# Altium schematic symbol library radxa_cm3i_io_board_v1.4_Library.SchLib: 162 symbols (part 1 of 2)
Pins are listed as number, name and electrical type; pins without a type are passive.

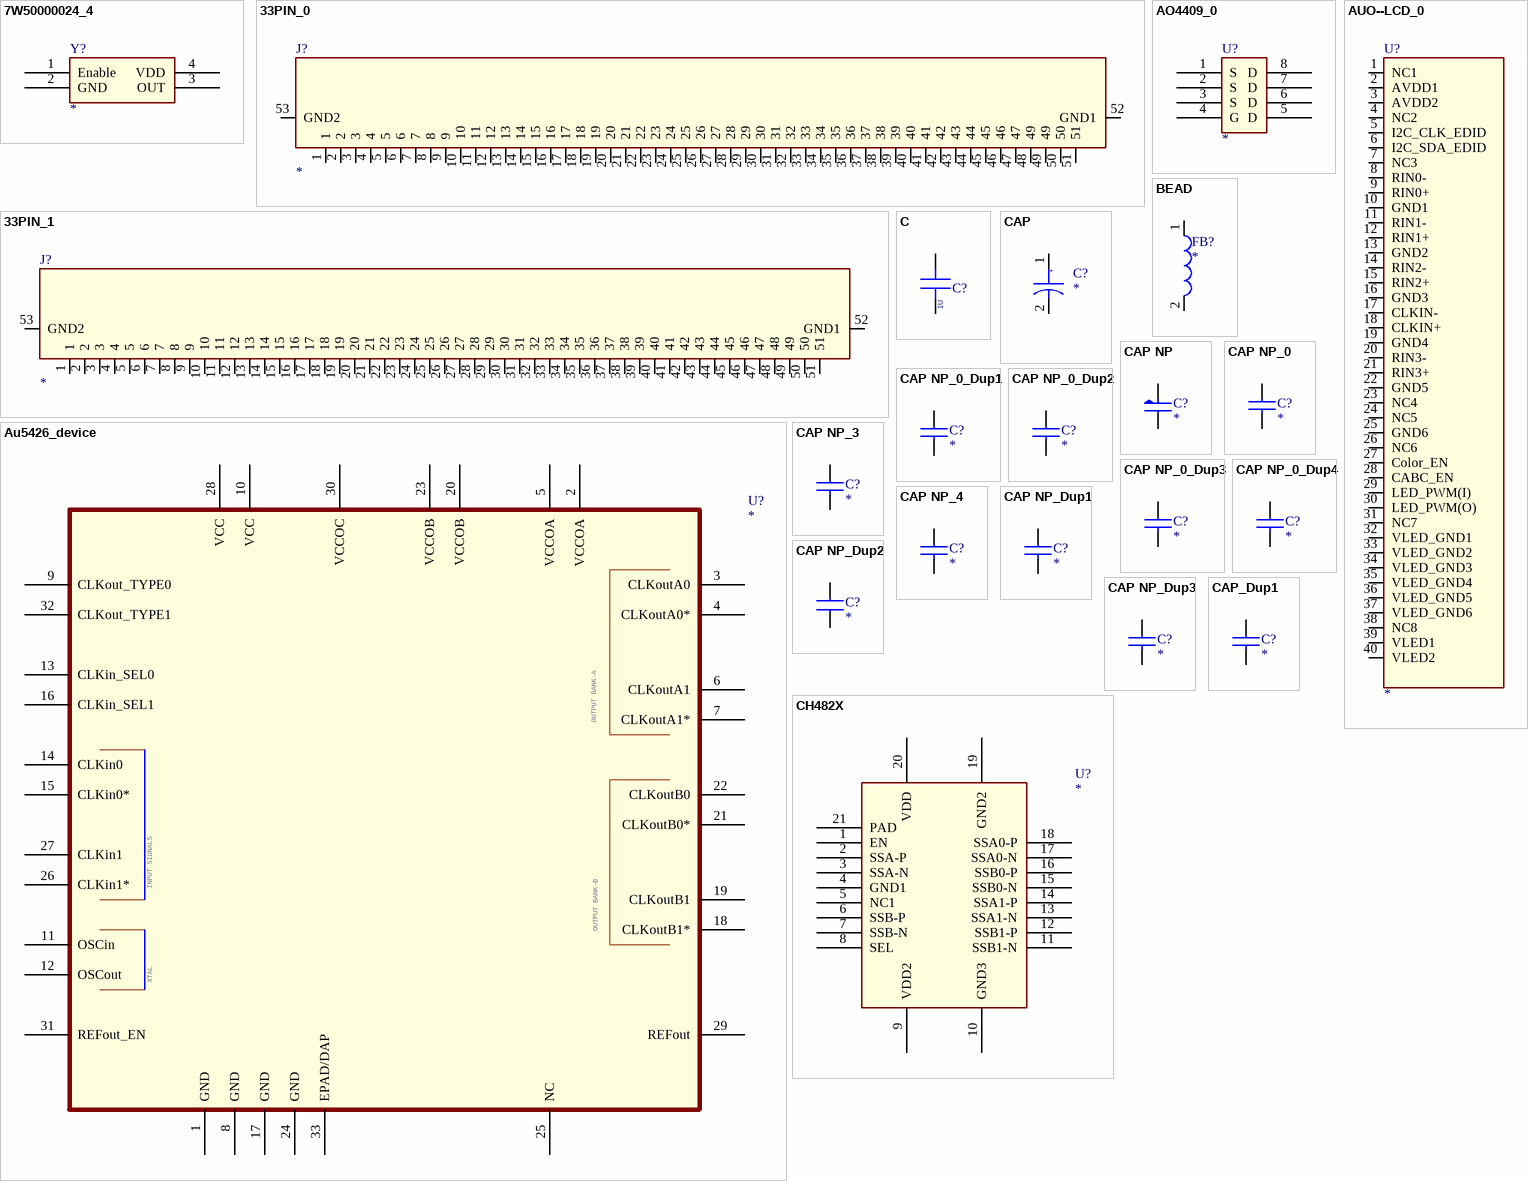
[diagram p0: symbols 7W50000024_4 to CH482X]

## 7W50000024_4
designator Y?
footprint Y-4-5_08-TXC-7W5
pins: 1 Enable, 2 GND, 3 OUT, 4 VDD

## 33PIN_0
designator J?
footprint 33PIN
pins: 1, 2, 3, 4, 5, 6, 7, 8, 9, 10, 11, 12, 13, 14, 15, 16, 17, 18, 19, 20, 21, 22, 23, 24, 25, 26, 27, 28, 29, 30, 31, 32, 33, 34, 35, 36, 37, 38, 39, 40, 41, 42, 43, 44, 45, 46, 47, 48 49, 49, 50, 51, 52 GND1, 53 GND2

## 33PIN_1
designator J?
footprint 33PIN
pins: 1, 2, 3, 4, 5, 6, 7, 8, 9, 10, 11, 12, 13, 14, 15, 16, 17, 18, 19, 20, 21, 22, 23, 24, 25, 26, 27, 28, 29, 30, 31, 32, 33, 34, 35, 36, 37, 38, 39, 40, 41, 42, 43, 44, 45, 46, 47, 48, 49, 50, 51, 52 GND1, 53 GND2

## AO4409_0
designator U?
pins: 1 S, 2 S, 3 S, 4 G, 5 D, 6 D, 7 D, 8 D

## Au5426_device
designator U?
footprint QFN50P500X500X90-33N
pins: 1 GND (power), 2 VCCOA (power), 3 CLKoutA0, 4 CLKoutA0*, 5 VCCOA (power), 6 CLKoutA1, 7 CLKoutA1*, 8 GND (power), 9 CLKout_TYPE0, 10 VCC (power), 11 OSCin, 12 OSCout, 13 CLKin_SEL0, 14 CLKin0, 15 CLKin0*, 16 CLKin_SEL1, 17 GND (power), 18 CLKoutB1*, 19 CLKoutB1, 20 VCCOB (power), 21 CLKoutB0*, 22 CLKoutB0, 23 VCCOB (power), 24 GND (power), 25 NC, 26 CLKin1*, 27 CLKin1, 28 VCC (power), 29 REFout, 30 VCCOC, 31 REFout_EN, 32 CLKout_TYPE1, 33 EPAD/DAP
text: OUTPUT BANK-A; INPUT SIGNALS; OUTPUT BANK-B; XTAL

## AUO--LCD_0
designator U?
pins: 1 NC1, 2 AVDD1, 3 AVDD2, 4 NC2, 5 I2C_CLK_EDID, 6 I2C_SDA_EDID, 7 NC3, 8 RIN0-, 9 RIN0+, 10 GND1, 11 RIN1-, 12 RIN1+, 13 GND2, 14 RIN2-, 15 RIN2+, 16 GND3, 17 CLKIN-, 18 CLKIN+, 19 GND4, 20 RIN3-, 21 RIN3+, 22 GND5, 23 NC4, 24 NC5, 25 GND6, 26 NC6, 27 Color_EN, 28 CABC_EN, 29 LED_PWM(I), 30 LED_PWM(O), 31 NC7, 32 VLED_GND1, 33 VLED_GND2, 34 VLED_GND3, 35 VLED_GND4, 36 VLED_GND5, 37 VLED_GND6, 38 NC8, 39 VLED1, 40 VLED2

## BEAD
designator FB?
pins: 1, 2

## C
designator C?, comment 1U
PARTS: 1; OriginalSymbolOrigin: (0,30); PKG_TYPE: CAP2-100-250; LEVEL: STD; PINSWAP: (A,B)
pins: 1, 2

## CAP
designator C?
pins: 1, 2
text: +

## CAP NP
designator C?
pins: 1, 2

## CAP NP_0
designator C?
pins: 1, 2

## CAP NP_0_Dup1
designator C?
pins: 1, 2

## CAP NP_0_Dup2
designator C?
pins: 1, 2

## CAP NP_0_Dup3
designator C?
pins: 1, 2

## CAP NP_0_Dup4
designator C?
pins: 1, 2

## CAP NP_3
designator C?
pins: 1, 2

## CAP NP_4
designator C?
pins: 1, 2

## CAP NP_Dup1
designator C?
pins: 1, 2

## CAP NP_Dup2
designator C?
footprint C0603
pins: 1, 2

## CAP NP_Dup3
designator C?
footprint C0402
pins: 1, 2

## CAP_Dup1
designator C?
pins: 1, 2

## CH482X
designator U?
footprint CH482X
pins: 1 EN, 2 SSA-P, 3 SSA-N, 4 GND1, 5 NC1, 6 SSB-P, 7 SSB-N, 8 SEL, 9 VDD2, 10 GND3, 11 SSB1-N, 12 SSB1-P, 13 SSA1-N, 14 SSA1-P, 15 SSB0-N, 16 SSB0-P, 17 SSA0-N, 18 SSA0-P, 19 GND2, 20 VDD, 21 PAD

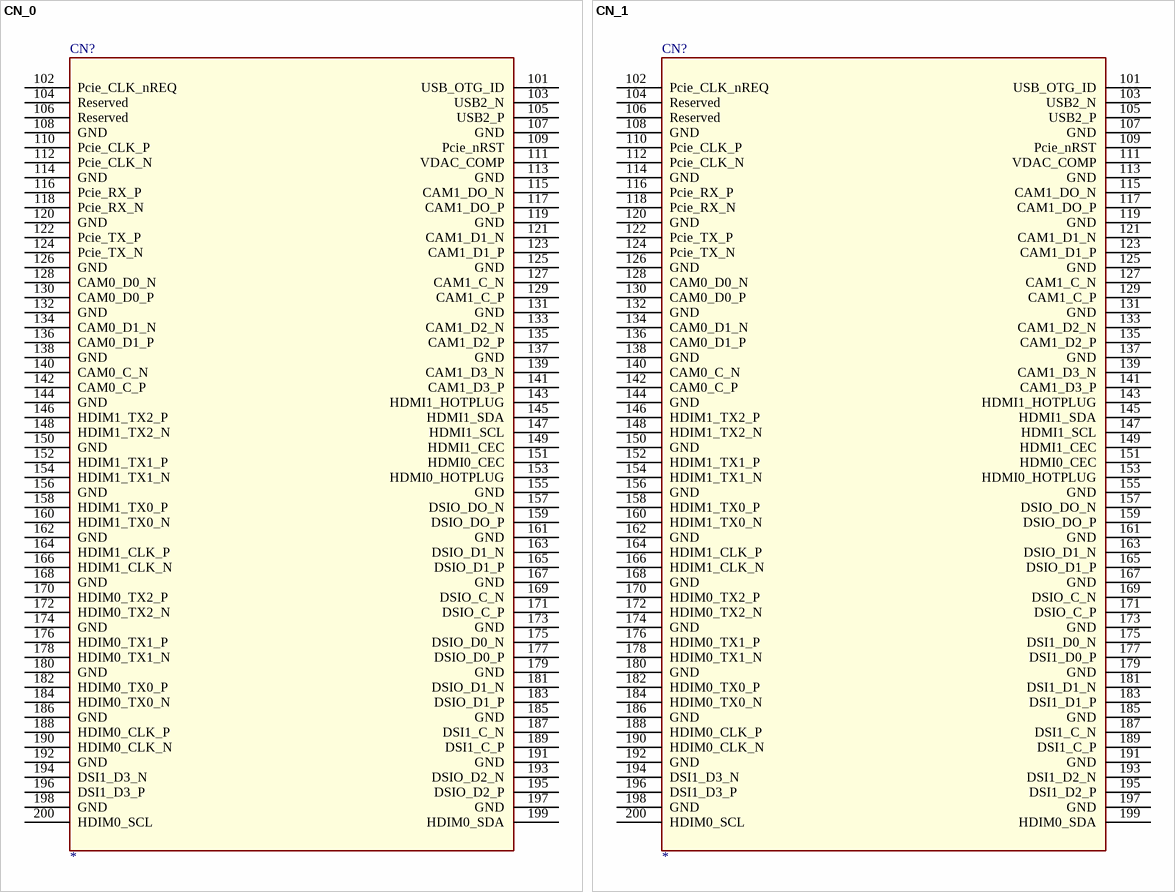
[diagram p1: symbols CN_0 to CN_1]

## CN_0
designator CN?
pins: 101 USB_OTG_ID, 102 Pcie_CLK_nREQ, 103 USB2_N, 104 Reserved, 105 USB2_P, 106 Reserved, 107 GND, 108 GND, 109 Pcie_nRST, 110 Pcie_CLK_P, 111 VDAC_COMP, 112 Pcie_CLK_N, 113 GND, 114 GND, 115 CAM1_DO_N, 116 Pcie_RX_P, 117 CAM1_DO_P, 118 Pcie_RX_N, 119 GND, 120 GND, 121 CAM1_D1_N, 122 Pcie_TX_P, 123 CAM1_D1_P, 124 Pcie_TX_N, 125 GND, 126 GND, 127 CAM1_C_N, 128 CAM0_D0_N, 129 CAM1_C_P, 130 CAM0_D0_P, 131 GND, 132 GND, 133 CAM1_D2_N, 134 CAM0_D1_N, 135 CAM1_D2_P, 136 CAM0_D1_P, 137 GND, 138 GND, 139 CAM1_D3_N, 140 CAM0_C_N, 141 CAM1_D3_P, 142 CAM0_C_P, 143 HDMI1_HOTPLUG, 144 GND, 145 HDMI1_SDA, 146 HDIM1_TX2_P, 147 HDMI1_SCL, 148 HDIM1_TX2_N, 149 HDMI1_CEC, 150 GND, 151 HDMI0_CEC, 152 HDIM1_TX1_P, 153 HDMI0_HOTPLUG, 154 HDIM1_TX1_N, 155 GND, 156 GND, 157 DSIO_DO_N, 158 HDIM1_TX0_P, 159 DSIO_DO_P, 160 HDIM1_TX0_N, 161 GND, 162 GND, 163 DSIO_D1_N, 164 HDIM1_CLK_P, 165 DSIO_D1_P, 166 HDIM1_CLK_N, 167 GND, 168 GND, 169 DSIO_C_N, 170 HDIM0_TX2_P, 171 DSIO_C_P, 172 HDIM0_TX2_N, 173 GND, 174 GND, 175 DSIO_D0_N, 176 HDIM0_TX1_P, 177 DSIO_D0_P, 178 HDIM0_TX1_N, 179 GND, 180 GND, 181 DSIO_D1_N, 182 HDIM0_TX0_P, 183 DSIO_D1_P, 184 HDIM0_TX0_N, 185 GND, 186 GND, 187 DSI1_C_N, 188 HDIM0_CLK_P, 189 DSI1_C_P, 190 HDIM0_CLK_N, 191 GND, 192 GND, 193 DSIO_D2_N, 194 DSI1_D3_N, 195 DSIO_D2_P, 196 DSI1_D3_P, 197 GND, 198 GND, 199 HDIM0_SDA, 200 HDIM0_SCL

## CN_1
designator CN?
pins: 101 USB_OTG_ID, 102 Pcie_CLK_nREQ, 103 USB2_N, 104 Reserved, 105 USB2_P, 106 Reserved, 107 GND, 108 GND, 109 Pcie_nRST, 110 Pcie_CLK_P, 111 VDAC_COMP, 112 Pcie_CLK_N, 113 GND, 114 GND, 115 CAM1_DO_N, 116 Pcie_RX_P, 117 CAM1_DO_P, 118 Pcie_RX_N, 119 GND, 120 GND, 121 CAM1_D1_N, 122 Pcie_TX_P, 123 CAM1_D1_P, 124 Pcie_TX_N, 125 GND, 126 GND, 127 CAM1_C_N, 128 CAM0_D0_N, 129 CAM1_C_P, 130 CAM0_D0_P, 131 GND, 132 GND, 133 CAM1_D2_N, 134 CAM0_D1_N, 135 CAM1_D2_P, 136 CAM0_D1_P, 137 GND, 138 GND, 139 CAM1_D3_N, 140 CAM0_C_N, 141 CAM1_D3_P, 142 CAM0_C_P, 143 HDMI1_HOTPLUG, 144 GND, 145 HDMI1_SDA, 146 HDIM1_TX2_P, 147 HDMI1_SCL, 148 HDIM1_TX2_N, 149 HDMI1_CEC, 150 GND, 151 HDMI0_CEC, 152 HDIM1_TX1_P, 153 HDMI0_HOTPLUG, 154 HDIM1_TX1_N, 155 GND, 156 GND, 157 DSIO_DO_N, 158 HDIM1_TX0_P, 159 DSIO_DO_P, 160 HDIM1_TX0_N, 161 GND, 162 GND, 163 DSIO_D1_N, 164 HDIM1_CLK_P, 165 DSIO_D1_P, 166 HDIM1_CLK_N, 167 GND, 168 GND, 169 DSIO_C_N, 170 HDIM0_TX2_P, 171 DSIO_C_P, 172 HDIM0_TX2_N, 173 GND, 174 GND, 175 DSI1_D0_N, 176 HDIM0_TX1_P, 177 DSI1_D0_P, 178 HDIM0_TX1_N, 179 GND, 180 GND, 181 DSI1_D1_N, 182 HDIM0_TX0_P, 183 DSI1_D1_P, 184 HDIM0_TX0_N, 185 GND, 186 GND, 187 DSI1_C_N, 188 HDIM0_CLK_P, 189 DSI1_C_P, 190 HDIM0_CLK_N, 191 GND, 192 GND, 193 DSI1_D2_N, 194 DSI1_D3_N, 195 DSI1_D2_P, 196 DSI1_D3_P, 197 GND, 198 GND, 199 HDIM0_SDA, 200 HDIM0_SCL

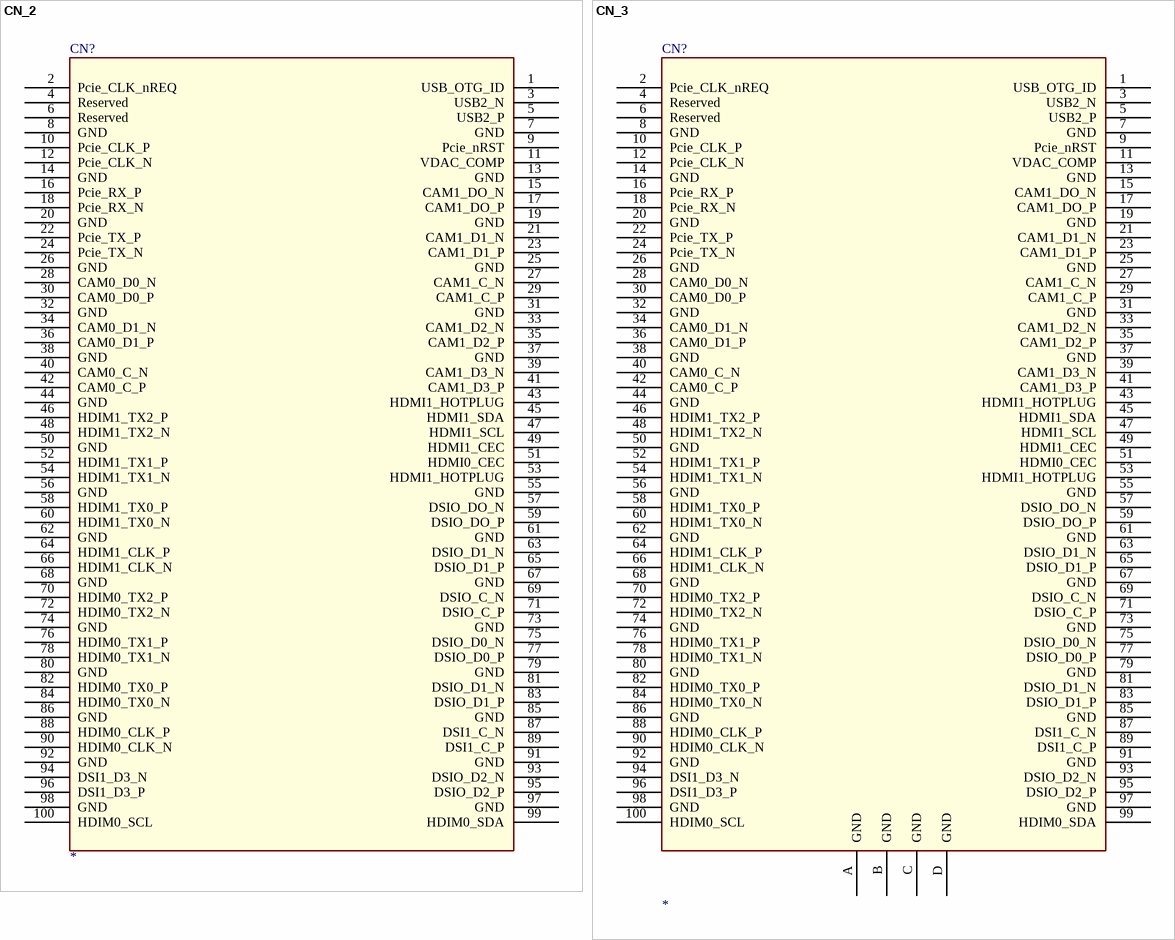
[diagram p2: symbols CN_2 to CN_3]

## CN_2
designator CN?
pins: 1 USB_OTG_ID, 2 Pcie_CLK_nREQ, 3 USB2_N, 4 Reserved, 5 USB2_P, 6 Reserved, 7 GND, 8 GND, 9 Pcie_nRST, 10 Pcie_CLK_P, 11 VDAC_COMP, 12 Pcie_CLK_N, 13 GND, 14 GND, 15 CAM1_DO_N, 16 Pcie_RX_P, 17 CAM1_DO_P, 18 Pcie_RX_N, 19 GND, 20 GND, 21 CAM1_D1_N, 22 Pcie_TX_P, 23 CAM1_D1_P, 24 Pcie_TX_N, 25 GND, 26 GND, 27 CAM1_C_N, 28 CAM0_D0_N, 29 CAM1_C_P, 30 CAM0_D0_P, 31 GND, 32 GND, 33 CAM1_D2_N, 34 CAM0_D1_N, 35 CAM1_D2_P, 36 CAM0_D1_P, 37 GND, 38 GND, 39 CAM1_D3_N, 40 CAM0_C_N, 41 CAM1_D3_P, 42 CAM0_C_P, 43 HDMI1_HOTPLUG, 44 GND, 45 HDMI1_SDA, 46 HDIM1_TX2_P, 47 HDMI1_SCL, 48 HDIM1_TX2_N, 49 HDMI1_CEC, 50 GND, 51 HDMI0_CEC, 52 HDIM1_TX1_P, 53 HDMI1_HOTPLUG, 54 HDIM1_TX1_N, 55 GND, 56 GND, 57 DSIO_DO_N, 58 HDIM1_TX0_P, 59 DSIO_DO_P, 60 HDIM1_TX0_N, 61 GND, 62 GND, 63 DSIO_D1_N, 64 HDIM1_CLK_P, 65 DSIO_D1_P, 66 HDIM1_CLK_N, 67 GND, 68 GND, 69 DSIO_C_N, 70 HDIM0_TX2_P, 71 DSIO_C_P, 72 HDIM0_TX2_N, 73 GND, 74 GND, 75 DSIO_D0_N, 76 HDIM0_TX1_P, 77 DSIO_D0_P, 78 HDIM0_TX1_N, 79 GND, 80 GND, 81 DSIO_D1_N, 82 HDIM0_TX0_P, 83 DSIO_D1_P, 84 HDIM0_TX0_N, 85 GND, 86 GND, 87 DSI1_C_N, 88 HDIM0_CLK_P, 89 DSI1_C_P, 90 HDIM0_CLK_N, 91 GND, 92 GND, 93 DSIO_D2_N, 94 DSI1_D3_N, 95 DSIO_D2_P, 96 DSI1_D3_P, 97 GND, 98 GND, 99 HDIM0_SDA, 100 HDIM0_SCL

## CN_3
designator CN?
pins: 1 USB_OTG_ID, 2 Pcie_CLK_nREQ, 3 USB2_N, 4 Reserved, 5 USB2_P, 6 Reserved, 7 GND, 8 GND, 9 Pcie_nRST, 10 Pcie_CLK_P, 11 VDAC_COMP, 12 Pcie_CLK_N, 13 GND, 14 GND, 15 CAM1_DO_N, 16 Pcie_RX_P, 17 CAM1_DO_P, 18 Pcie_RX_N, 19 GND, 20 GND, 21 CAM1_D1_N, 22 Pcie_TX_P, 23 CAM1_D1_P, 24 Pcie_TX_N, 25 GND, 26 GND, 27 CAM1_C_N, 28 CAM0_D0_N, 29 CAM1_C_P, 30 CAM0_D0_P, 31 GND, 32 GND, 33 CAM1_D2_N, 34 CAM0_D1_N, 35 CAM1_D2_P, 36 CAM0_D1_P, 37 GND, 38 GND, 39 CAM1_D3_N, 40 CAM0_C_N, 41 CAM1_D3_P, 42 CAM0_C_P, 43 HDMI1_HOTPLUG, 44 GND, 45 HDMI1_SDA, 46 HDIM1_TX2_P, 47 HDMI1_SCL, 48 HDIM1_TX2_N, 49 HDMI1_CEC, 50 GND, 51 HDMI0_CEC, 52 HDIM1_TX1_P, 53 HDMI1_HOTPLUG, 54 HDIM1_TX1_N, 55 GND, 56 GND, 57 DSIO_DO_N, 58 HDIM1_TX0_P, 59 DSIO_DO_P, 60 HDIM1_TX0_N, 61 GND, 62 GND, 63 DSIO_D1_N, 64 HDIM1_CLK_P, 65 DSIO_D1_P, 66 HDIM1_CLK_N, 67 GND, 68 GND, 69 DSIO_C_N, 70 HDIM0_TX2_P, 71 DSIO_C_P, 72 HDIM0_TX2_N, 73 GND, 74 GND, 75 DSIO_D0_N, 76 HDIM0_TX1_P, 77 DSIO_D0_P, 78 HDIM0_TX1_N, 79 GND, 80 GND, 81 DSIO_D1_N, 82 HDIM0_TX0_P, 83 DSIO_D1_P, 84 HDIM0_TX0_N, 85 GND, 86 GND, 87 DSI1_C_N, 88 HDIM0_CLK_P, 89 DSI1_C_P, 90 HDIM0_CLK_N, 91 GND, 92 GND, 93 DSIO_D2_N, 94 DSI1_D3_N, 95 DSIO_D2_P, 96 DSI1_D3_P, 97 GND, 98 GND, 99 HDIM0_SDA, 100 HDIM0_SCL, A GND, B GND, C GND, D GND

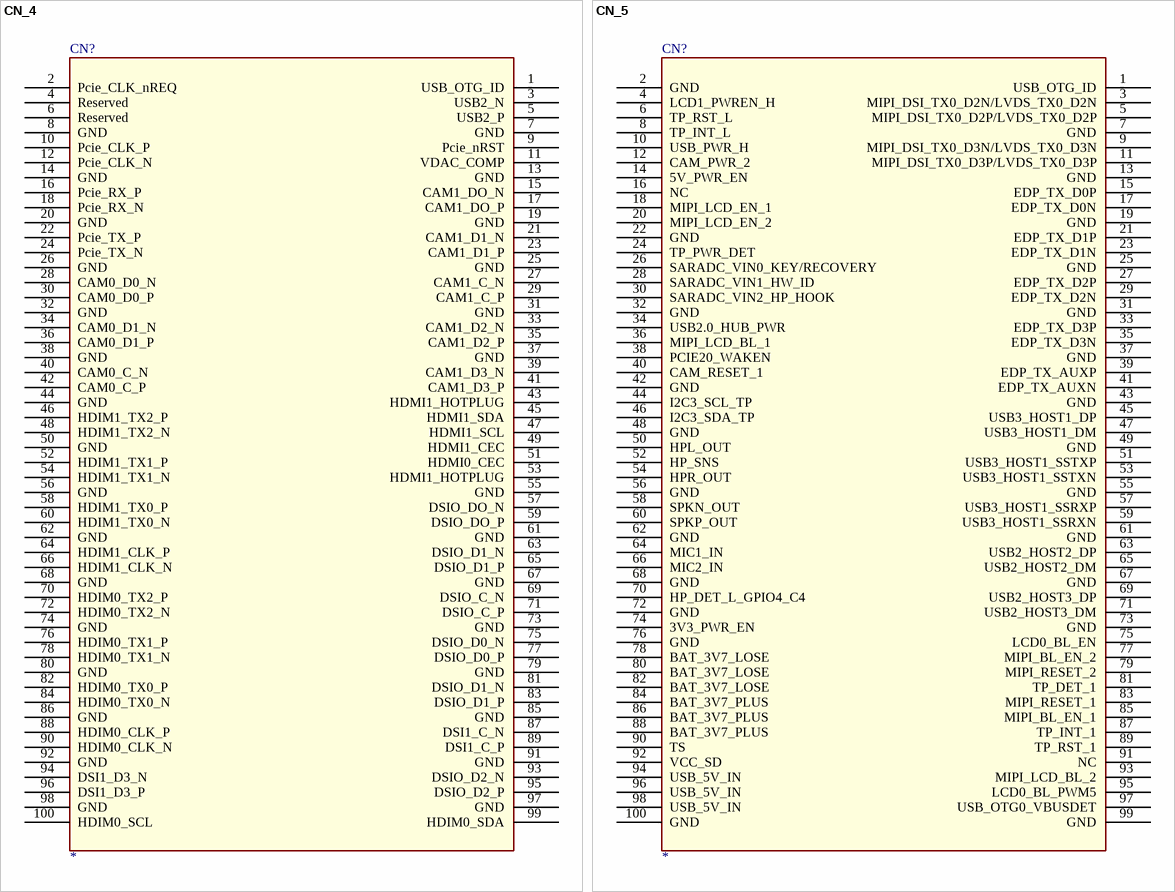
[diagram p3: symbols CN_4 to CN_5]

## CN_4
designator CN?
pins: 1 USB_OTG_ID, 2 Pcie_CLK_nREQ, 3 USB2_N, 4 Reserved, 5 USB2_P, 6 Reserved, 7 GND, 8 GND, 9 Pcie_nRST, 10 Pcie_CLK_P, 11 VDAC_COMP, 12 Pcie_CLK_N, 13 GND, 14 GND, 15 CAM1_DO_N, 16 Pcie_RX_P, 17 CAM1_DO_P, 18 Pcie_RX_N, 19 GND, 20 GND, 21 CAM1_D1_N, 22 Pcie_TX_P, 23 CAM1_D1_P, 24 Pcie_TX_N, 25 GND, 26 GND, 27 CAM1_C_N, 28 CAM0_D0_N, 29 CAM1_C_P, 30 CAM0_D0_P, 31 GND, 32 GND, 33 CAM1_D2_N, 34 CAM0_D1_N, 35 CAM1_D2_P, 36 CAM0_D1_P, 37 GND, 38 GND, 39 CAM1_D3_N, 40 CAM0_C_N, 41 CAM1_D3_P, 42 CAM0_C_P, 43 HDMI1_HOTPLUG, 44 GND, 45 HDMI1_SDA, 46 HDIM1_TX2_P, 47 HDMI1_SCL, 48 HDIM1_TX2_N, 49 HDMI1_CEC, 50 GND, 51 HDMI0_CEC, 52 HDIM1_TX1_P, 53 HDMI1_HOTPLUG, 54 HDIM1_TX1_N, 55 GND, 56 GND, 57 DSIO_DO_N, 58 HDIM1_TX0_P, 59 DSIO_DO_P, 60 HDIM1_TX0_N, 61 GND, 62 GND, 63 DSIO_D1_N, 64 HDIM1_CLK_P, 65 DSIO_D1_P, 66 HDIM1_CLK_N, 67 GND, 68 GND, 69 DSIO_C_N, 70 HDIM0_TX2_P, 71 DSIO_C_P, 72 HDIM0_TX2_N, 73 GND, 74 GND, 75 DSIO_D0_N, 76 HDIM0_TX1_P, 77 DSIO_D0_P, 78 HDIM0_TX1_N, 79 GND, 80 GND, 81 DSIO_D1_N, 82 HDIM0_TX0_P, 83 DSIO_D1_P, 84 HDIM0_TX0_N, 85 GND, 86 GND, 87 DSI1_C_N, 88 HDIM0_CLK_P, 89 DSI1_C_P, 90 HDIM0_CLK_N, 91 GND, 92 GND, 93 DSIO_D2_N, 94 DSI1_D3_N, 95 DSIO_D2_P, 96 DSI1_D3_P, 97 GND, 98 GND, 99 HDIM0_SDA, 100 HDIM0_SCL

## CN_5
designator CN?
pins: 1 USB_OTG_ID, 2 GND, 3 MIPI_DSI_TX0_D2N/LVDS_TX0_D2N, 4 LCD1_PWREN_H, 5 MIPI_DSI_TX0_D2P/LVDS_TX0_D2P, 6 TP_RST_L, 7 GND, 8 TP_INT_L, 9 MIPI_DSI_TX0_D3N/LVDS_TX0_D3N, 10 USB_PWR_H, 11 MIPI_DSI_TX0_D3P/LVDS_TX0_D3P, 12 CAM_PWR_2, 13 GND, 14 5V_PWR_EN, 15 EDP_TX_D0P, 16 NC, 17 EDP_TX_D0N, 18 MIPI_LCD_EN_1, 19 GND, 20 MIPI_LCD_EN_2, 21 EDP_TX_D1P, 22 GND, 23 EDP_TX_D1N, 24 TP_PWR_DET, 25 GND, 26 SARADC_VIN0_KEY/RECOVERY, 27 EDP_TX_D2P, 28 SARADC_VIN1_HW_ID, 29 EDP_TX_D2N, 30 SARADC_VIN2_HP_HOOK, 31 GND, 32 GND, 33 EDP_TX_D3P, 34 USB2.0_HUB_PWR, 35 EDP_TX_D3N, 36 MIPI_LCD_BL_1, 37 GND, 38 PCIE20_WAKEN, 39 EDP_TX_AUXP, 40 CAM_RESET_1, 41 EDP_TX_AUXN, 42 GND, 43 GND, 44 I2C3_SCL_TP, 45 USB3_HOST1_DP, 46 I2C3_SDA_TP, 47 USB3_HOST1_DM, 48 GND, 49 GND, 50 HPL_OUT, 51 USB3_HOST1_SSTXP, 52 HP_SNS, 53 USB3_HOST1_SSTXN, 54 HPR_OUT, 55 GND, 56 GND, 57 USB3_HOST1_SSRXP, 58 SPKN_OUT, 59 USB3_HOST1_SSRXN, 60 SPKP_OUT, 61 GND, 62 GND, 63 USB2_HOST2_DP, 64 MIC1_IN, 65 USB2_HOST2_DM, 66 MIC2_IN, 67 GND, 68 GND, 69 USB2_HOST3_DP, 70 HP_DET_L_GPIO4_C4, 71 USB2_HOST3_DM, 72 GND, 73 GND, 74 3V3_PWR_EN, 75 LCD0_BL_EN, 76 GND, 77 MIPI_BL_EN_2, 78 BAT_3V7_LOSE, 79 MIPI_RESET_2, 80 BAT_3V7_LOSE, 81 TP_DET_1, 82 BAT_3V7_LOSE, 83 MIPI_RESET_1, 84 BAT_3V7_PLUS, 85 MIPI_BL_EN_1, 86 BAT_3V7_PLUS, 87 TP_INT_1, 88 BAT_3V7_PLUS, 89 TP_RST_1, 90 TS, 91 NC, 92 VCC_SD, 93 MIPI_LCD_BL_2, 94 USB_5V_IN, 95 LCD0_BL_PWM5, 96 USB_5V_IN, 97 USB_OTG0_VBUSDET, 98 USB_5V_IN, 99 GND, 100 GND

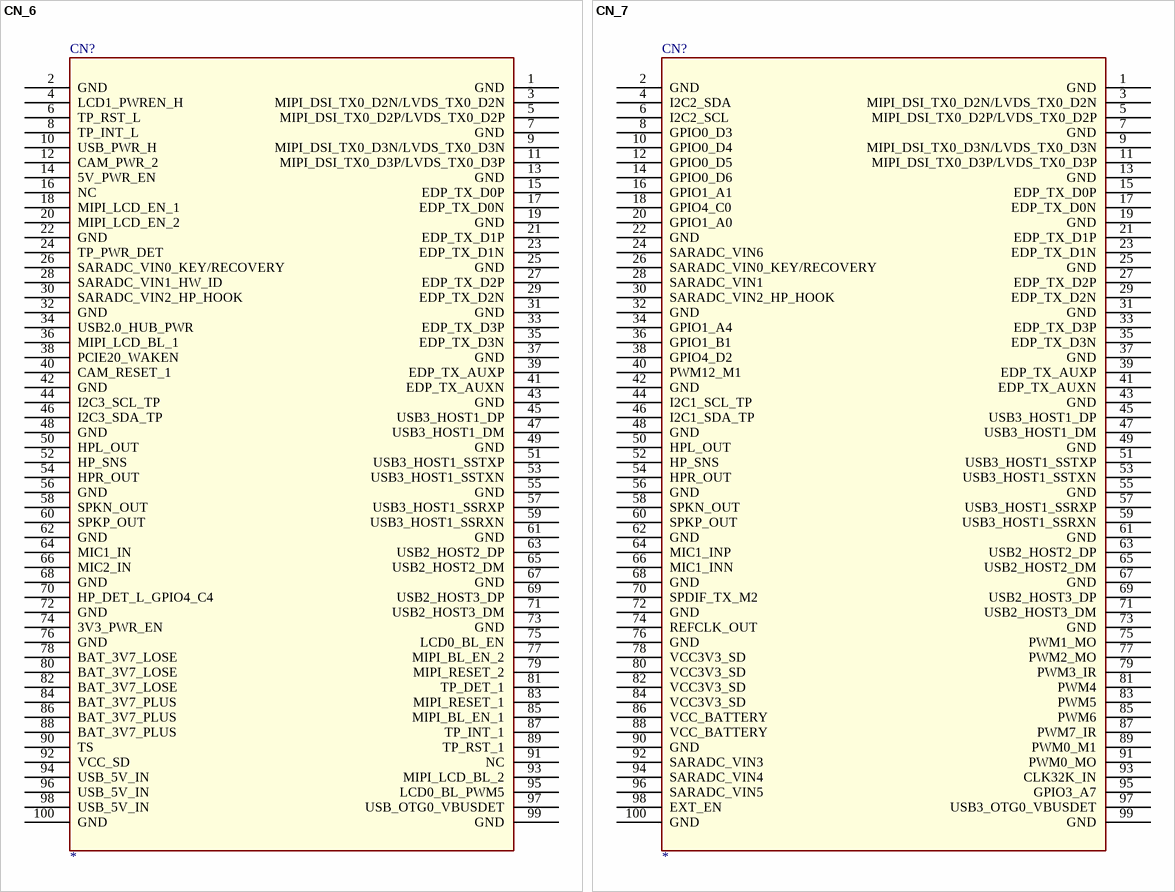
[diagram p4: symbols CN_6 to CN_7]

## CN_6
designator CN?
pins: 1 GND, 2 GND, 3 MIPI_DSI_TX0_D2N/LVDS_TX0_D2N, 4 LCD1_PWREN_H, 5 MIPI_DSI_TX0_D2P/LVDS_TX0_D2P, 6 TP_RST_L, 7 GND, 8 TP_INT_L, 9 MIPI_DSI_TX0_D3N/LVDS_TX0_D3N, 10 USB_PWR_H, 11 MIPI_DSI_TX0_D3P/LVDS_TX0_D3P, 12 CAM_PWR_2, 13 GND, 14 5V_PWR_EN, 15 EDP_TX_D0P, 16 NC, 17 EDP_TX_D0N, 18 MIPI_LCD_EN_1, 19 GND, 20 MIPI_LCD_EN_2, 21 EDP_TX_D1P, 22 GND, 23 EDP_TX_D1N, 24 TP_PWR_DET, 25 GND, 26 SARADC_VIN0_KEY/RECOVERY, 27 EDP_TX_D2P, 28 SARADC_VIN1_HW_ID, 29 EDP_TX_D2N, 30 SARADC_VIN2_HP_HOOK, 31 GND, 32 GND, 33 EDP_TX_D3P, 34 USB2.0_HUB_PWR, 35 EDP_TX_D3N, 36 MIPI_LCD_BL_1, 37 GND, 38 PCIE20_WAKEN, 39 EDP_TX_AUXP, 40 CAM_RESET_1, 41 EDP_TX_AUXN, 42 GND, 43 GND, 44 I2C3_SCL_TP, 45 USB3_HOST1_DP, 46 I2C3_SDA_TP, 47 USB3_HOST1_DM, 48 GND, 49 GND, 50 HPL_OUT, 51 USB3_HOST1_SSTXP, 52 HP_SNS, 53 USB3_HOST1_SSTXN, 54 HPR_OUT, 55 GND, 56 GND, 57 USB3_HOST1_SSRXP, 58 SPKN_OUT, 59 USB3_HOST1_SSRXN, 60 SPKP_OUT, 61 GND, 62 GND, 63 USB2_HOST2_DP, 64 MIC1_IN, 65 USB2_HOST2_DM, 66 MIC2_IN, 67 GND, 68 GND, 69 USB2_HOST3_DP, 70 HP_DET_L_GPIO4_C4, 71 USB2_HOST3_DM, 72 GND, 73 GND, 74 3V3_PWR_EN, 75 LCD0_BL_EN, 76 GND, 77 MIPI_BL_EN_2, 78 BAT_3V7_LOSE, 79 MIPI_RESET_2, 80 BAT_3V7_LOSE, 81 TP_DET_1, 82 BAT_3V7_LOSE, 83 MIPI_RESET_1, 84 BAT_3V7_PLUS, 85 MIPI_BL_EN_1, 86 BAT_3V7_PLUS, 87 TP_INT_1, 88 BAT_3V7_PLUS, 89 TP_RST_1, 90 TS, 91 NC, 92 VCC_SD, 93 MIPI_LCD_BL_2, 94 USB_5V_IN, 95 LCD0_BL_PWM5, 96 USB_5V_IN, 97 USB_OTG0_VBUSDET, 98 USB_5V_IN, 99 GND, 100 GND

## CN_7
designator CN?
pins: 1 GND, 2 GND, 3 MIPI_DSI_TX0_D2N/LVDS_TX0_D2N, 4 I2C2_SDA, 5 MIPI_DSI_TX0_D2P/LVDS_TX0_D2P, 6 I2C2_SCL, 7 GND, 8 GPIO0_D3, 9 MIPI_DSI_TX0_D3N/LVDS_TX0_D3N, 10 GPIO0_D4, 11 MIPI_DSI_TX0_D3P/LVDS_TX0_D3P, 12 GPIO0_D5, 13 GND, 14 GPIO0_D6, 15 EDP_TX_D0P, 16 GPIO1_A1, 17 EDP_TX_D0N, 18 GPIO4_C0, 19 GND, 20 GPIO1_A0, 21 EDP_TX_D1P, 22 GND, 23 EDP_TX_D1N, 24 SARADC_VIN6, 25 GND, 26 SARADC_VIN0_KEY/RECOVERY, 27 EDP_TX_D2P, 28 SARADC_VIN1, 29 EDP_TX_D2N, 30 SARADC_VIN2_HP_HOOK, 31 GND, 32 GND, 33 EDP_TX_D3P, 34 GPIO1_A4, 35 EDP_TX_D3N, 36 GPIO1_B1, 37 GND, 38 GPIO4_D2, 39 EDP_TX_AUXP, 40 PWM12_M1, 41 EDP_TX_AUXN, 42 GND, 43 GND, 44 I2C1_SCL_TP, 45 USB3_HOST1_DP, 46 I2C1_SDA_TP, 47 USB3_HOST1_DM, 48 GND, 49 GND, 50 HPL_OUT, 51 USB3_HOST1_SSTXP, 52 HP_SNS, 53 USB3_HOST1_SSTXN, 54 HPR_OUT, 55 GND, 56 GND, 57 USB3_HOST1_SSRXP, 58 SPKN_OUT, 59 USB3_HOST1_SSRXN, 60 SPKP_OUT, 61 GND, 62 GND, 63 USB2_HOST2_DP, 64 MIC1_INP, 65 USB2_HOST2_DM, 66 MIC1_INN, 67 GND, 68 GND, 69 USB2_HOST3_DP, 70 SPDIF_TX_M2, 71 USB2_HOST3_DM, 72 GND, 73 GND, 74 REFCLK_OUT, 75 PWM1_MO, 76 GND, 77 PWM2_MO, 78 VCC3V3_SD, 79 PWM3_IR, 80 VCC3V3_SD, 81 PWM4, 82 VCC3V3_SD, 83 PWM5, 84 VCC3V3_SD, 85 PWM6, 86 VCC_BATTERY, 87 PWM7_IR, 88 VCC_BATTERY, 89 PWM0_M1, 90 GND, 91 PWM0_MO, 92 SARADC_VIN3, 93 CLK32K_IN, 94 SARADC_VIN4, 95 GPIO3_A7, 96 SARADC_VIN5, 97 USB3_OTG0_VBUSDET, 98 EXT_EN, 99 GND, 100 GND

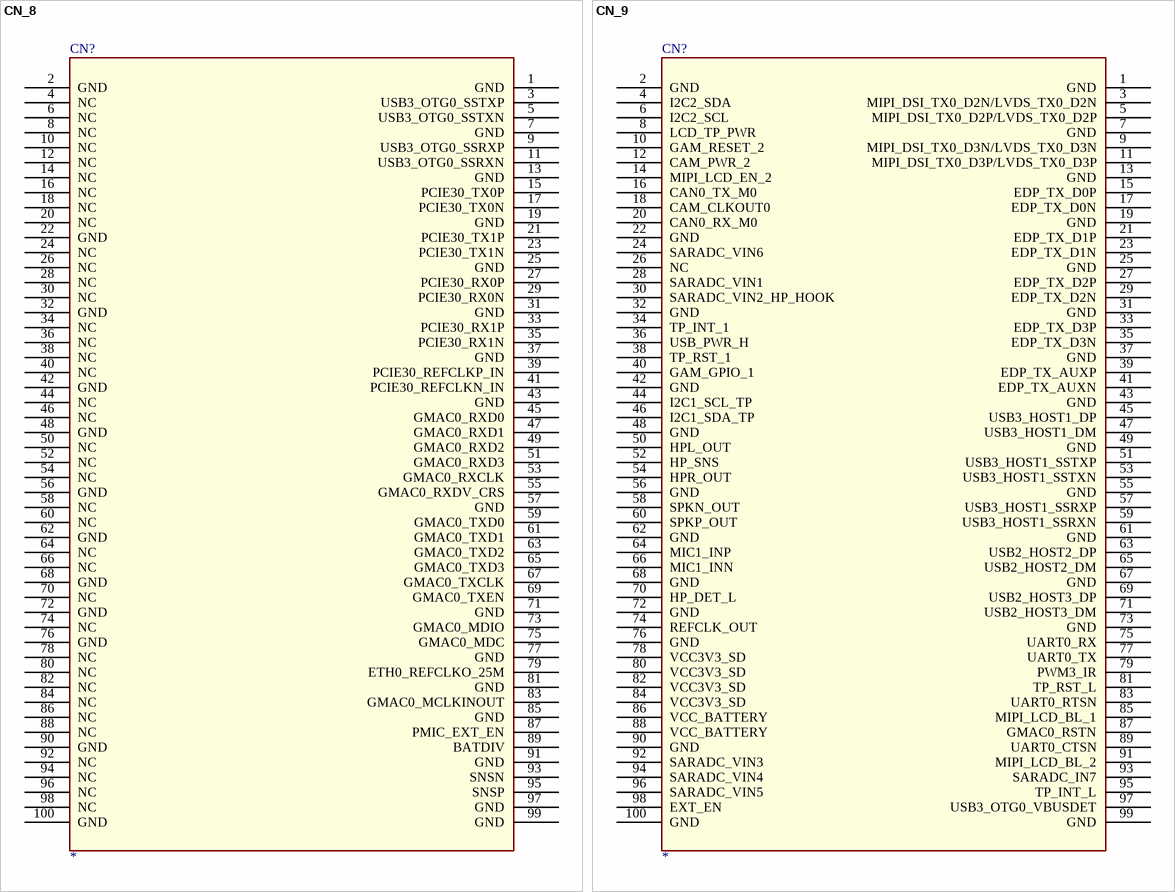
[diagram p5: symbols CN_8 to CN_9]

## CN_8
designator CN?
pins: 1 GND, 2 GND, 3 USB3_OTG0_SSTXP, 4 NC, 5 USB3_OTG0_SSTXN, 6 NC, 7 GND, 8 NC, 9 USB3_OTG0_SSRXP, 10 NC, 11 USB3_OTG0_SSRXN, 12 NC, 13 GND, 14 NC, 15 PCIE30_TX0P, 16 NC, 17 PCIE30_TX0N, 18 NC, 19 GND, 20 NC, 21 PCIE30_TX1P, 22 GND, 23 PCIE30_TX1N, 24 NC, 25 GND, 26 NC, 27 PCIE30_RX0P, 28 NC, 29 PCIE30_RX0N, 30 NC, 31 GND, 32 GND, 33 PCIE30_RX1P, 34 NC, 35 PCIE30_RX1N, 36 NC, 37 GND, 38 NC, 39 PCIE30_REFCLKP_IN, 40 NC, 41 PCIE30_REFCLKN_IN, 42 GND, 43 GND, 44 NC, 45 GMAC0_RXD0, 46 NC, 47 GMAC0_RXD1, 48 GND, 49 GMAC0_RXD2, 50 NC, 51 GMAC0_RXD3, 52 NC, 53 GMAC0_RXCLK, 54 NC, 55 GMAC0_RXDV_CRS, 56 GND, 57 GND, 58 NC, 59 GMAC0_TXD0, 60 NC, 61 GMAC0_TXD1, 62 GND, 63 GMAC0_TXD2, 64 NC, 65 GMAC0_TXD3, 66 NC, 67 GMAC0_TXCLK, 68 GND, 69 GMAC0_TXEN, 70 NC, 71 GND, 72 GND, 73 GMAC0_MDIO, 74 NC, 75 GMAC0_MDC, 76 GND, 77 GND, 78 NC, 79 ETH0_REFCLKO_25M, 80 NC, 81 GND, 82 NC, 83 GMAC0_MCLKINOUT, 84 NC, 85 GND, 86 NC, 87 PMIC_EXT_EN, 88 NC, 89 BATDIV, 90 GND, 91 GND, 92 NC, 93 SNSN, 94 NC, 95 SNSP, 96 NC, 97 GND, 98 NC, 99 GND, 100 GND

## CN_9
designator CN?
pins: 1 GND, 2 GND, 3 MIPI_DSI_TX0_D2N/LVDS_TX0_D2N, 4 I2C2_SDA, 5 MIPI_DSI_TX0_D2P/LVDS_TX0_D2P, 6 I2C2_SCL, 7 GND, 8 LCD_TP_PWR, 9 MIPI_DSI_TX0_D3N/LVDS_TX0_D3N, 10 GAM_RESET_2, 11 MIPI_DSI_TX0_D3P/LVDS_TX0_D3P, 12 CAM_PWR_2, 13 GND, 14 MIPI_LCD_EN_2, 15 EDP_TX_D0P, 16 CAN0_TX_M0, 17 EDP_TX_D0N, 18 CAM_CLKOUT0, 19 GND, 20 CAN0_RX_M0, 21 EDP_TX_D1P, 22 GND, 23 EDP_TX_D1N, 24 SARADC_VIN6, 25 GND, 26 NC, 27 EDP_TX_D2P, 28 SARADC_VIN1, 29 EDP_TX_D2N, 30 SARADC_VIN2_HP_HOOK, 31 GND, 32 GND, 33 EDP_TX_D3P, 34 TP_INT_1, 35 EDP_TX_D3N, 36 USB_PWR_H, 37 GND, 38 TP_RST_1, 39 EDP_TX_AUXP, 40 GAM_GPIO_1, 41 EDP_TX_AUXN, 42 GND, 43 GND, 44 I2C1_SCL_TP, 45 USB3_HOST1_DP, 46 I2C1_SDA_TP, 47 USB3_HOST1_DM, 48 GND, 49 GND, 50 HPL_OUT, 51 USB3_HOST1_SSTXP, 52 HP_SNS, 53 USB3_HOST1_SSTXN, 54 HPR_OUT, 55 GND, 56 GND, 57 USB3_HOST1_SSRXP, 58 SPKN_OUT, 59 USB3_HOST1_SSRXN, 60 SPKP_OUT, 61 GND, 62 GND, 63 USB2_HOST2_DP, 64 MIC1_INP, 65 USB2_HOST2_DM, 66 MIC1_INN, 67 GND, 68 GND, 69 USB2_HOST3_DP, 70 HP_DET_L, 71 USB2_HOST3_DM, 72 GND, 73 GND, 74 REFCLK_OUT, 75 UART0_RX, 76 GND, 77 UART0_TX, 78 VCC3V3_SD, 79 PWM3_IR, 80 VCC3V3_SD, 81 TP_RST_L, 82 VCC3V3_SD, 83 UART0_RTSN, 84 VCC3V3_SD, 85 MIPI_LCD_BL_1, 86 VCC_BATTERY, 87 GMAC0_RSTN, 88 VCC_BATTERY, 89 UART0_CTSN, 90 GND, 91 MIPI_LCD_BL_2, 92 SARADC_VIN3, 93 SARADC_IN7, 94 SARADC_VIN4, 95 TP_INT_L, 96 SARADC_VIN5, 97 USB3_OTG0_VBUSDET, 98 EXT_EN, 99 GND, 100 GND

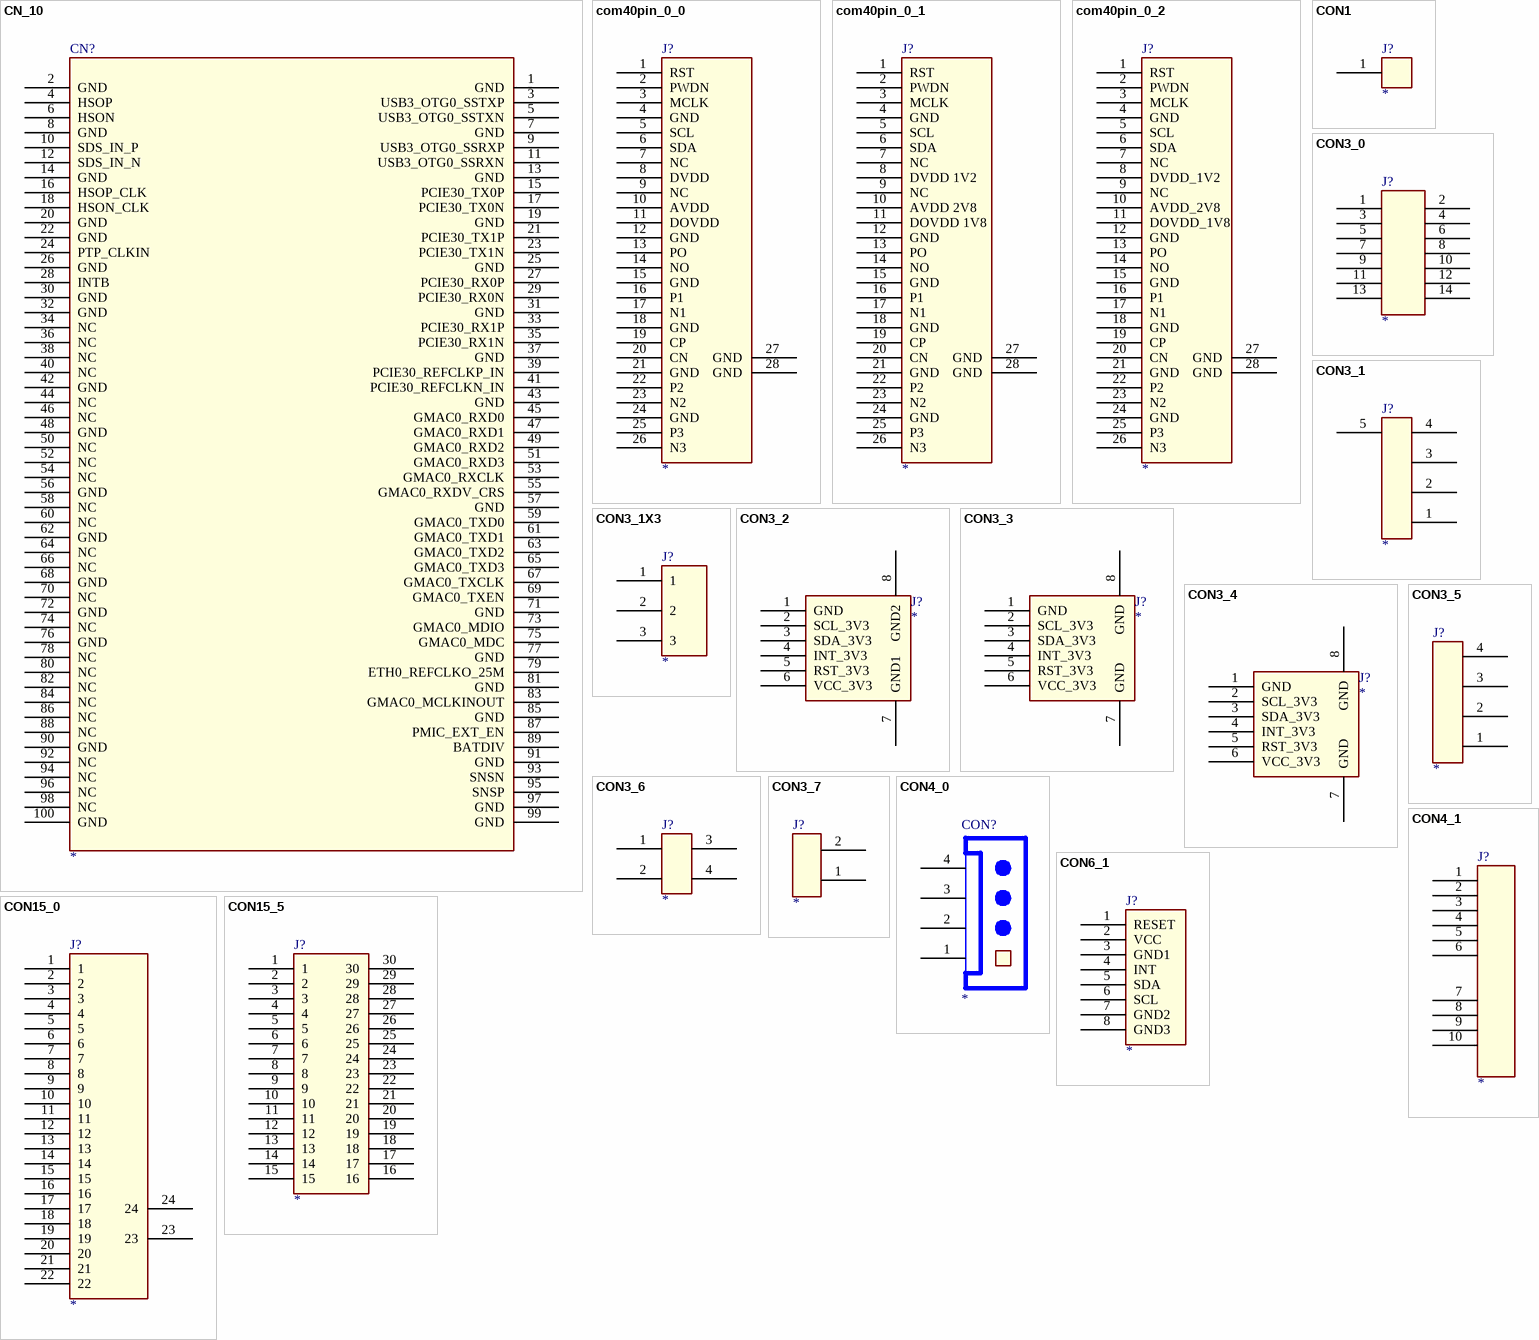
[diagram p6: symbols CN_10 to CON15_5]

## CN_10
designator CN?
pins: 1 GND, 2 GND, 3 USB3_OTG0_SSTXP, 4 HSOP, 5 USB3_OTG0_SSTXN, 6 HSON, 7 GND, 8 GND, 9 USB3_OTG0_SSRXP, 10 SDS_IN_P, 11 USB3_OTG0_SSRXN, 12 SDS_IN_N, 13 GND, 14 GND, 15 PCIE30_TX0P, 16 HSOP_CLK, 17 PCIE30_TX0N, 18 HSON_CLK, 19 GND, 20 GND, 21 PCIE30_TX1P, 22 GND, 23 PCIE30_TX1N, 24 PTP_CLKIN, 25 GND, 26 GND, 27 PCIE30_RX0P, 28 INTB, 29 PCIE30_RX0N, 30 GND, 31 GND, 32 GND, 33 PCIE30_RX1P, 34 NC, 35 PCIE30_RX1N, 36 NC, 37 GND, 38 NC, 39 PCIE30_REFCLKP_IN, 40 NC, 41 PCIE30_REFCLKN_IN, 42 GND, 43 GND, 44 NC, 45 GMAC0_RXD0, 46 NC, 47 GMAC0_RXD1, 48 GND, 49 GMAC0_RXD2, 50 NC, 51 GMAC0_RXD3, 52 NC, 53 GMAC0_RXCLK, 54 NC, 55 GMAC0_RXDV_CRS, 56 GND, 57 GND, 58 NC, 59 GMAC0_TXD0, 60 NC, 61 GMAC0_TXD1, 62 GND, 63 GMAC0_TXD2, 64 NC, 65 GMAC0_TXD3, 66 NC, 67 GMAC0_TXCLK, 68 GND, 69 GMAC0_TXEN, 70 NC, 71 GND, 72 GND, 73 GMAC0_MDIO, 74 NC, 75 GMAC0_MDC, 76 GND, 77 GND, 78 NC, 79 ETH0_REFCLKO_25M, 80 NC, 81 GND, 82 NC, 83 GMAC0_MCLKINOUT, 84 NC, 85 GND, 86 NC, 87 PMIC_EXT_EN, 88 NC, 89 BATDIV, 90 GND, 91 GND, 92 NC, 93 SNSN, 94 NC, 95 SNSP, 96 NC, 97 GND, 98 NC, 99 GND, 100 GND

## com40pin_0_0
designator J?
footprint com40pin_0_5
pins: 1 RST, 2 PWDN, 3 MCLK, 4 GND, 5 SCL, 6 SDA, 7 NC, 8 DVDD, 9 NC, 10 AVDD, 11 DOVDD, 12 GND, 13 PO, 14 NO, 15 GND, 16 P1, 17 N1, 18 GND, 19 CP, 20 CN, 21 GND, 22 P2, 23 N2, 24 GND, 25 P3, 26 N3, 27 GND, 28 GND

## com40pin_0_1
designator J?
footprint com40pin_0_5
pins: 1 RST, 2 PWDN, 3 MCLK, 4 GND, 5 SCL, 6 SDA, 7 NC, 8 DVDD 1V2, 9 NC, 10 AVDD 2V8, 11 DOVDD 1V8, 12 GND, 13 PO, 14 NO, 15 GND, 16 P1, 17 N1, 18 GND, 19 CP, 20 CN, 21 GND, 22 P2, 23 N2, 24 GND, 25 P3, 26 N3, 27 GND, 28 GND

## com40pin_0_2
designator J?
footprint com40pin_0_5
pins: 1 RST, 2 PWDN, 3 MCLK, 4 GND, 5 SCL, 6 SDA, 7 NC, 8 DVDD_1V2, 9 NC, 10 AVDD_2V8, 11 DOVDD_1V8, 12 GND, 13 PO, 14 NO, 15 GND, 16 P1, 17 N1, 18 GND, 19 CP, 20 CN, 21 GND, 22 P2, 23 N2, 24 GND, 25 P3, 26 N3, 27 GND, 28 GND

## CON1
designator J?
pins: 1

## CON3_0
designator J?
pins: 1, 2, 3, 4, 5, 6, 7, 8, 9, 10, 11, 12, 13, 14

## CON3_1
designator J?
pins: 1, 2, 3, 4, 5

## CON3_1X3
designator J?
footprint DIP3_1X3_2R54
pins: 1, 2, 3

## CON3_2
designator J?
footprint DIP3_1X3_2R54
pins: 1 GND, 2 SCL_3V3, 3 SDA_3V3, 4 INT_3V3, 5 RST_3V3, 6 VCC_3V3, 7 GND1, 8 GND2

## CON3_3
designator J?
footprint DIP3_1X3_2R54
pins: 1 GND, 2 SCL_3V3, 3 SDA_3V3, 4 INT_3V3, 5 RST_3V3, 6 VCC_3V3, 7 GND, 8 GND

## CON3_4
designator J?
footprint DIP3_1X3_2R54
pins: 1 GND, 2 SCL_3V3, 3 SDA_3V3, 4 INT_3V3, 5 RST_3V3, 6 VCC_3V3, 7 GND, 8 GND

## CON3_5
designator J?
pins: 1, 2, 3, 4

## CON3_6
designator J?
pins: 1, 2, 3, 4

## CON3_7
designator J?
pins: 1, 2

## CON4_0
designator CON?
pins: 1 GND, 2 RX, 3 TX, 4 3V3

## CON4_1
designator J?
pins: 1 VIN+, 2 VIN-, 3 AT-DET, 4, 5, 6, 7 -VDC, 8 +VDC, 9 ADJ, 10 -VDC

## CON6_1
designator J?
pins: 1 RESET, 2 VCC, 3 GND1, 4 INT, 5 SDA, 6 SCL, 7 GND2, 8 GND3

## CON15_0
designator J?
pins: 1, 2, 3, 4, 5, 6, 7, 8, 9, 10, 11, 12, 13, 14, 15, 16, 17, 18, 19, 20, 21, 22, 23, 24

## CON15_5
designator J?
pins: 1, 2, 3, 4, 5, 6, 7, 8, 9, 10, 11, 12, 13, 14, 15, 16, 17, 18, 19, 20, 21, 22, 23, 24, 25, 26, 27, 28, 29, 30

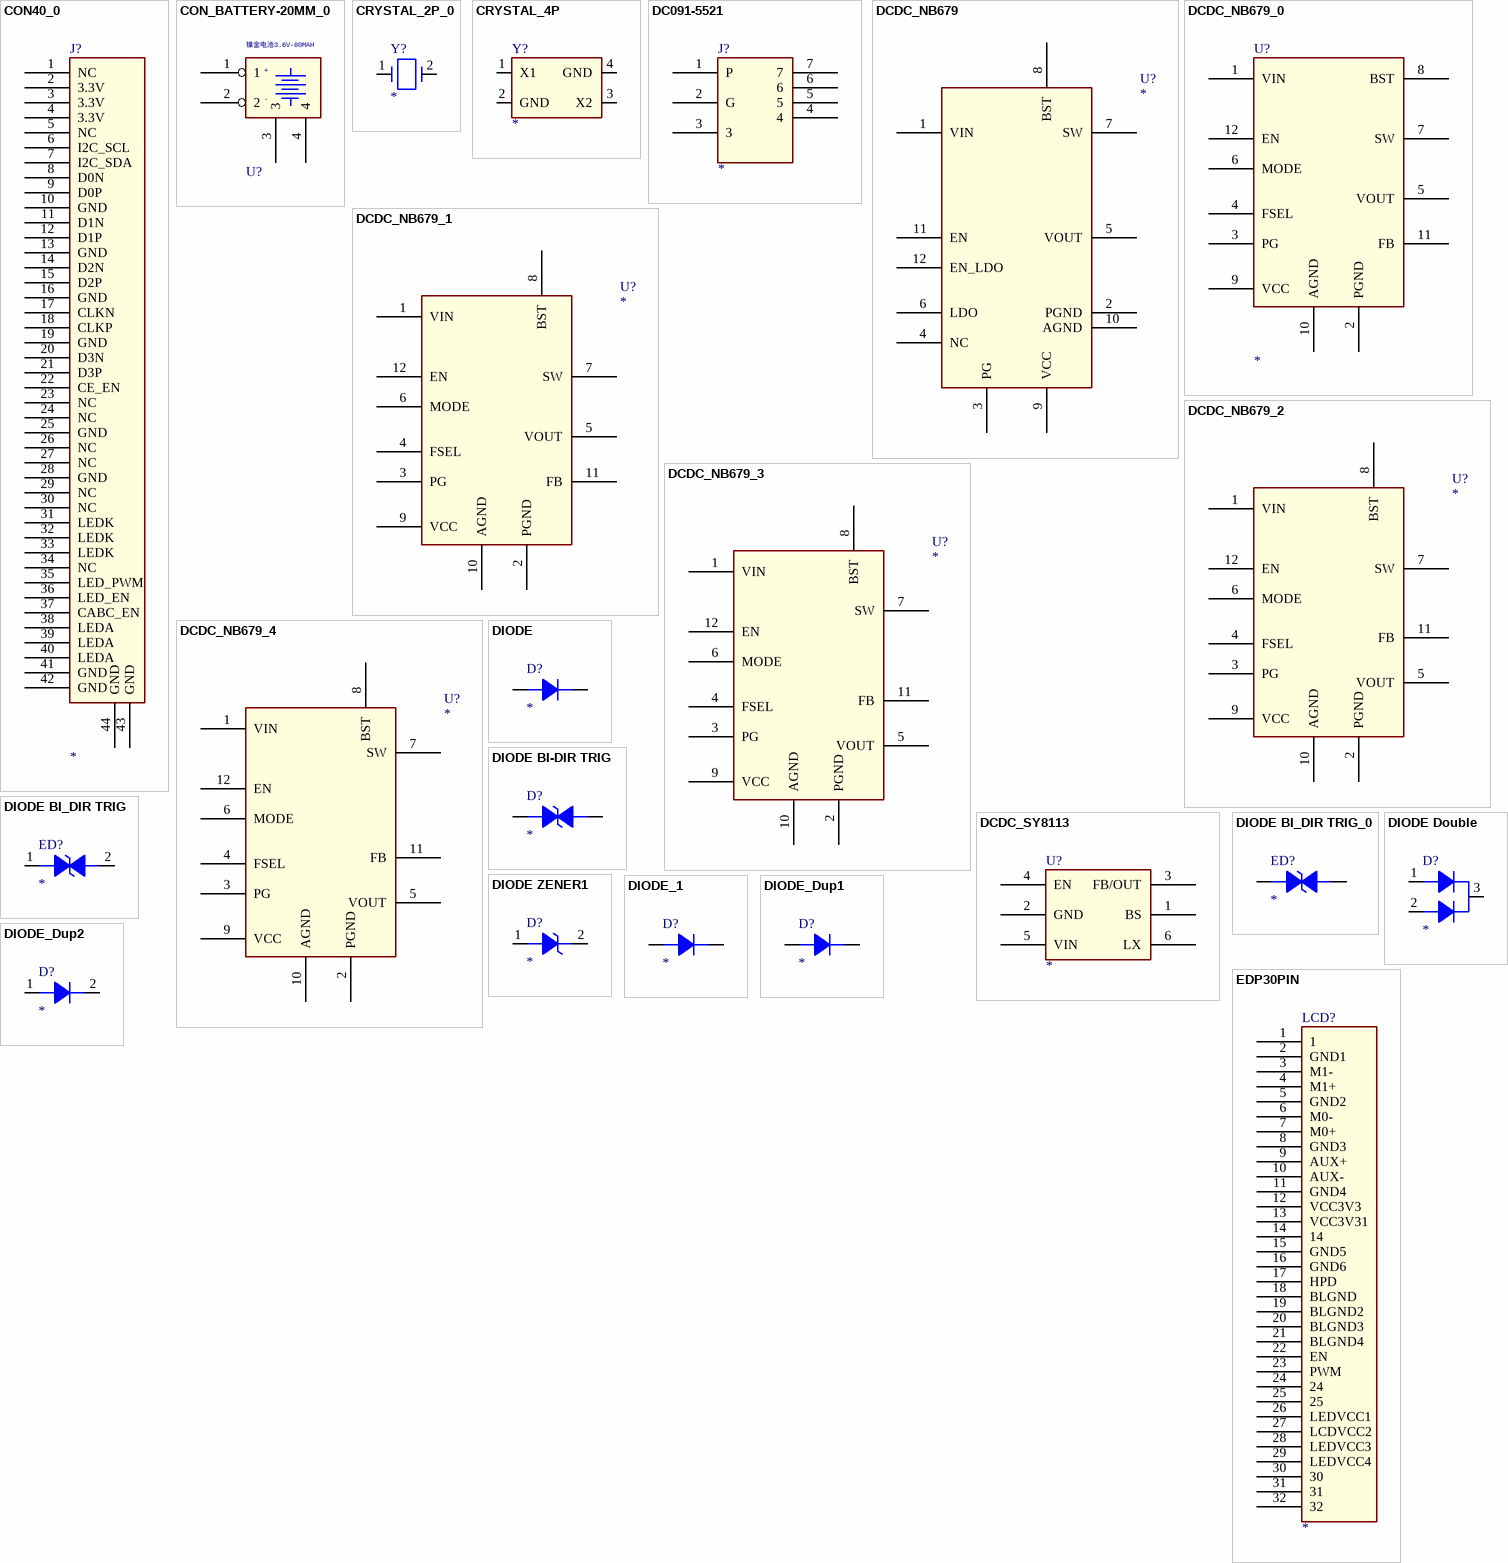
[diagram p7: symbols CON40_0 to EDP30PIN]

## CON40_0
designator J?
pins: 1 NC, 2 3.3V, 3 3.3V, 4 3.3V, 5 NC, 6 I2C_SCL, 7 I2C_SDA, 8 D0N, 9 D0P, 10 GND, 11 D1N, 12 D1P, 13 GND, 14 D2N, 15 D2P, 16 GND, 17 CLKN, 18 CLKP, 19 GND, 20 D3N, 21 D3P, 22 CE_EN, 23 NC, 24 NC, 25 GND, 26 NC, 27 NC, 28 GND, 29 NC, 30 NC, 31 LEDK, 32 LEDK, 33 LEDK, 34 NC, 35 LED_PWM, 36 LED_EN, 37 CABC_EN, 38 LEDA, 39 LEDA, 40 LEDA, 41 GND, 42 GND, 43 GND, 44 GND

## CON_BATTERY-20MM_0
designator U?, comment 镍金电池3.6V-80MAH
footprint BATTERY-20MM
pins: 1, 2, 3, 4
text: +; -

## CRYSTAL_2P_0
designator Y?
pins: 1, 2

## CRYSTAL_4P
designator Y?
footprint CRY-3225
pins: 1 X1, 2 GND (power), 3 X2, 4 GND (power)

## DC091-5521
designator J?
footprint DC091-5521
pins: 1 P, 2 G, 3, 4, 5, 6, 7

## DCDC_NB679
designator U?
footprint QFN12_3R00X2R00X0R90
pins: 1 VIN, 2 PGND, 3 PG, 4 NC, 5 VOUT, 6 LDO, 7 SW, 8 BST, 9 VCC, 10 AGND, 11 EN, 12 EN_LDO

## DCDC_NB679_0
designator U?
footprint QFN12_3R00X2R00X0R90
pins: 1 VIN, 2 PGND, 3 PG, 4 FSEL, 5 VOUT, 6 MODE, 7 SW, 8 BST, 9 VCC, 10 AGND, 11 FB, 12 EN

## DCDC_NB679_1
designator U?
footprint QFN12_3R00X2R00X0R90
pins: 1 VIN, 2 PGND, 3 PG, 4 FSEL, 5 VOUT, 6 MODE, 7 SW, 8 BST, 9 VCC, 10 AGND, 11 FB, 12 EN

## DCDC_NB679_2
designator U?
footprint QFN12_3R00X2R00X0R90
pins: 1 VIN, 2 PGND, 3 PG, 4 FSEL, 5 VOUT, 6 MODE, 7 SW, 8 BST, 9 VCC, 10 AGND, 11 FB, 12 EN

## DCDC_NB679_3
designator U?
footprint QFN12_3R00X2R00X0R90
pins: 1 VIN, 2 PGND, 3 PG, 4 FSEL, 5 VOUT, 6 MODE, 7 SW, 8 BST, 9 VCC, 10 AGND, 11 FB, 12 EN

## DCDC_NB679_4
designator U?
footprint QFN12_3R00X2R00X0R90
pins: 1 VIN, 2 PGND, 3 PG, 4 FSEL, 5 VOUT, 6 MODE, 7 SW, 8 BST, 9 VCC, 10 AGND, 11 FB, 12 EN

## DCDC_SY8113
designator U?
pins: 1 BS, 2 GND, 3 FB/OUT, 4 EN, 5 VIN, 6 LX

## DIODE
designator D?
pins: 1 A, 2 K

## DIODE BI-DIR TRIG
designator D?
pins: 1, 2

## DIODE BI_DIR TRIG
designator ED?
pins: 1, 2

## DIODE BI_DIR TRIG_0
designator ED?
pins: 1, 2

## DIODE Double
designator D?
pins: 1 A1, 2 A2, 3 K

## DIODE ZENER1
designator D?
pins: 1 ANODE, 2 CATHODE

## DIODE_1
designator D?
pins: 1 ANODE, 2 CATHODE

## DIODE_Dup1
designator D?
pins: 1 A, 2 K

## DIODE_Dup2
designator D?
pins: 1 A, 2 K

## EDP30PIN
designator LCD?
footprint EDP30PIN
pins: 1, 2 GND1, 3 M1-, 4 M1+, 5 GND2, 6 M0-, 7 M0+, 8 GND3, 9 AUX+, 10 AUX-, 11 GND4, 12 VCC3V3, 13 VCC3V31, 14, 15 GND5, 16 GND6, 17 HPD, 18 BLGND, 19 BLGND2, 20 BLGND3, 21 BLGND4, 22 EN, 23 PWM, 24, 25, 26 LEDVCC1, 27 LCDVCC2, 28 LEDVCC3, 29 LEDVCC4, 30, 31, 32

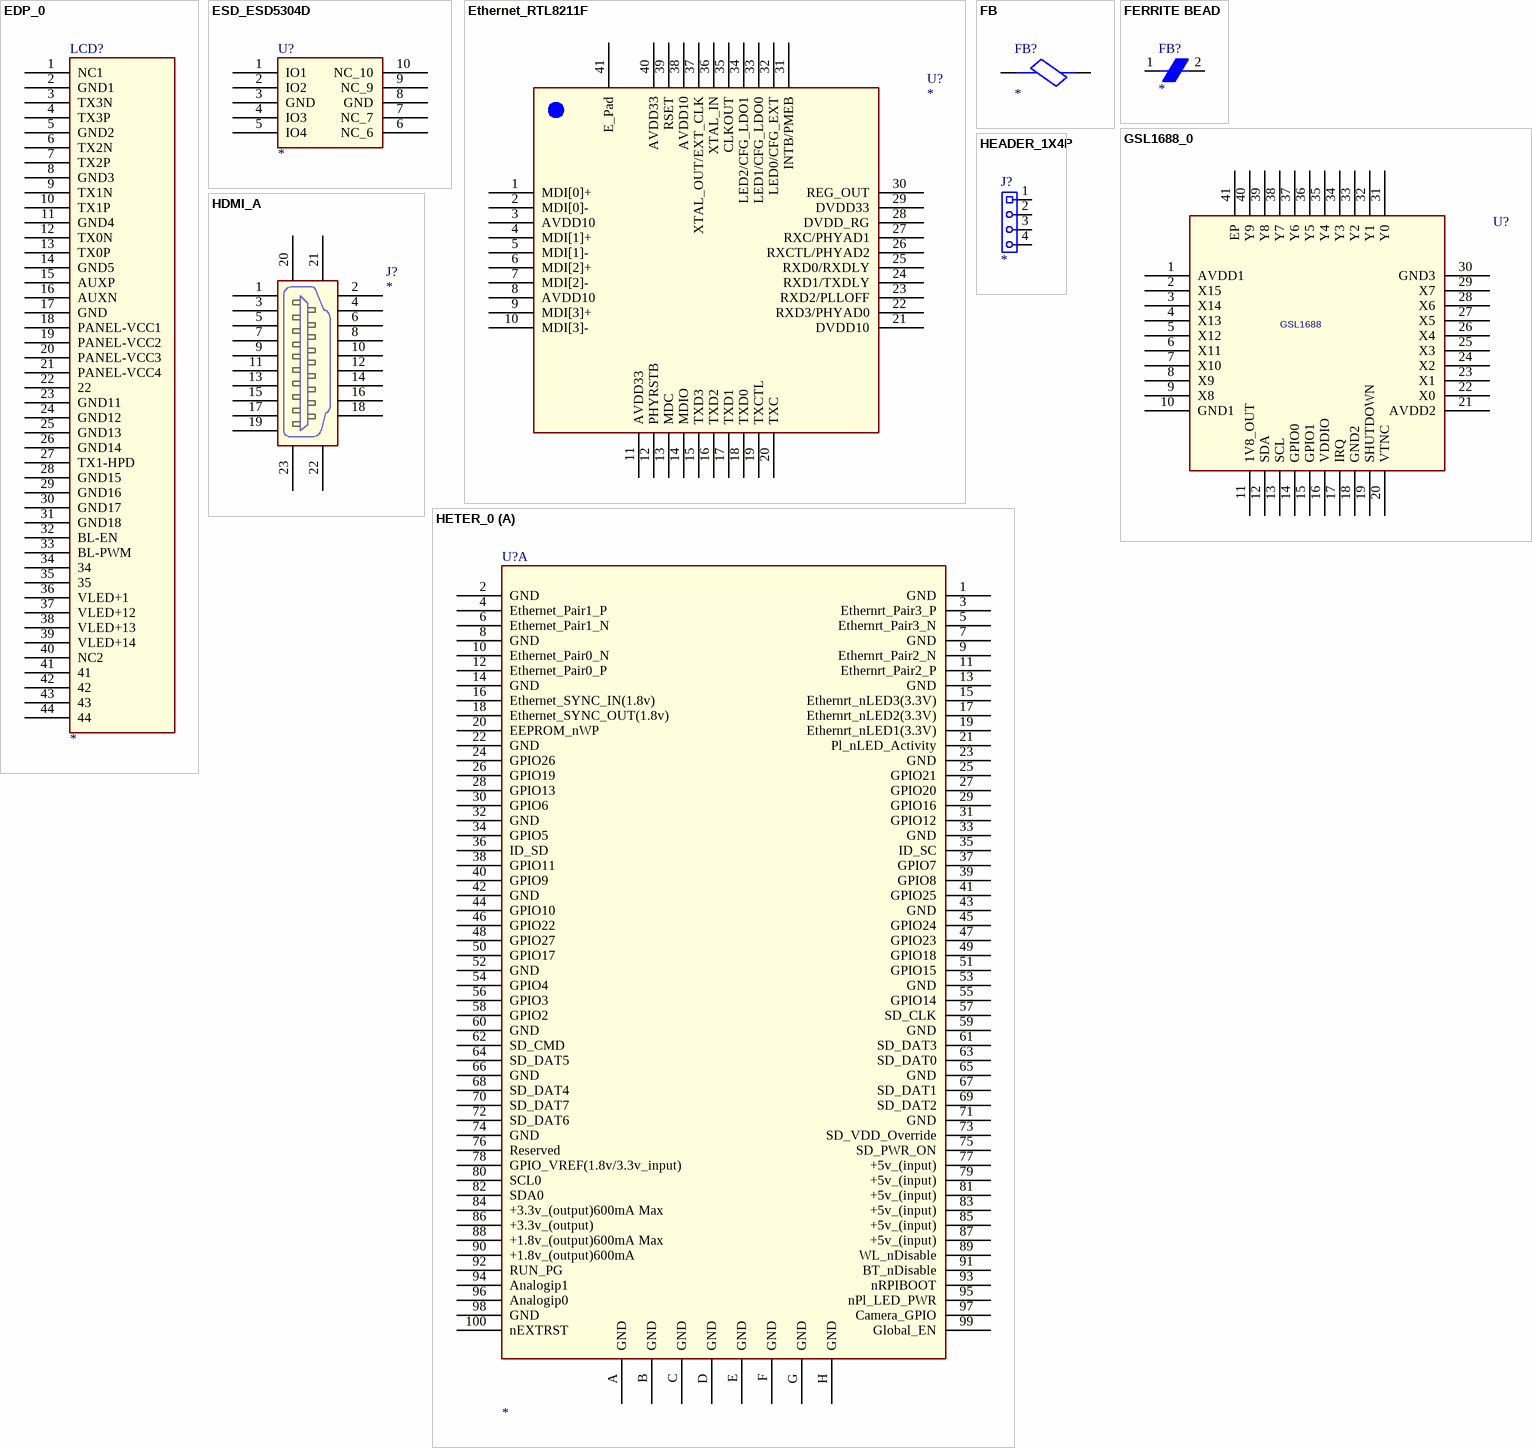
[diagram p8: symbols EDP_0 to HETER_0]

## EDP_0
designator LCD?
footprint EDP_1
pins: 1 NC1, 2 GND1, 3 TX3N, 4 TX3P, 5 GND2, 6 TX2N, 7 TX2P, 8 GND3, 9 TX1N, 10 TX1P, 11 GND4, 12 TX0N, 13 TX0P, 14 GND5, 15 AUXP, 16 AUXN, 17 GND, 18 PANEL-VCC1, 19 PANEL-VCC2, 20 PANEL-VCC3, 21 PANEL-VCC4, 22, 23 GND11, 24 GND12, 25 GND13, 26 GND14, 27 TX1-HPD, 28 GND15, 29 GND16, 30 GND17, 31 GND18, 32 BL-EN, 33 BL-PWM, 34, 35, 36 VLED+1, 37 VLED+12, 38 VLED+13, 39 VLED+14, 40 NC2, 41, 42, 43, 44

## ESD_ESD5304D
designator U?
pins: 1 IO1, 2 IO2, 3 GND (power), 4 IO3, 5 IO4, 6 NC_6, 7 NC_7, 8 GND (power), 9 NC_9, 10 NC_10

## Ethernet_RTL8211F
designator U?
footprint QFN40_5R00X5R00X0R80_T
pins: 1 MDI[0]+, 2 MDI[0]-, 3 AVDD10 (power), 4 MDI[1]+, 5 MDI[1]-, 6 MDI[2]+, 7 MDI[2]-, 8 AVDD10 (power), 9 MDI[3]+, 10 MDI[3]-, 11 AVDD33 (power), 12 PHYRSTB, 13 MDC, 14 MDIO, 15 TXD3, 16 TXD2, 17 TXD1, 18 TXD0, 19 TXCTL, 20 TXC, 21 DVDD10 (power), 22 RXD3/PHYAD0, 23 RXD2/PLLOFF, 24 RXD1/TXDLY, 25 RXD0/RXDLY, 26 RXCTL/PHYAD2, 27 RXC/PHYAD1, 28 DVDD_RG, 29 DVDD33 (power), 30 REG_OUT, 31 INTB/PMEB, 32 LED0/CFG_EXT, 33 LED1/CFG_LDO0, 34 LED2/CFG_LDO1, 35 CLKOUT, 36 XTAL_IN, 37 XTAL_OUT/EXT_CLK, 38 AVDD10 (power), 39 RSET, 40 AVDD33 (power), 41 E_Pad

## FB
designator FB?
pins: 1, 2

## FERRITE BEAD
designator FB?
pins: 1, 2

## GSL1688_0
designator U?, comment GSL1688
pins: 1 AVDD1, 2 X15, 3 X14, 4 X13, 5 X12, 6 X11, 7 X10, 8 X9, 9 X8, 10 GND1, 11 1V8_OUT, 12 SDA, 13 SCL, 14 GPIO0, 15 GPIO1, 16 VDDIO, 17 IRQ, 18 GND2, 19 SHUTDOWN, 20 VTNC, 21 AVDD2, 22 X0, 23 X1, 24 X2, 25 X3, 26 X4, 27 X5, 28 X6, 29 X7, 30 GND3, 31 Y0, 32 Y1, 33 Y2, 34 Y3, 35 Y4, 36 Y5, 37 Y6, 38 Y7, 39 Y8, 40 Y9, 41 EP

## HDMI_A
designator J?
pins: 1 $PIN0, 2, 3, 4, 5, 6, 7, 8, 9, 10, 11, 12, 13, 14, 15, 16, 17, 18, 19, 20, 21, 22, 23

## HEADER_1X4P
designator J?
Device: dip_header_1x4
footprint header_1x4
pins: 1, 2, 3, 4

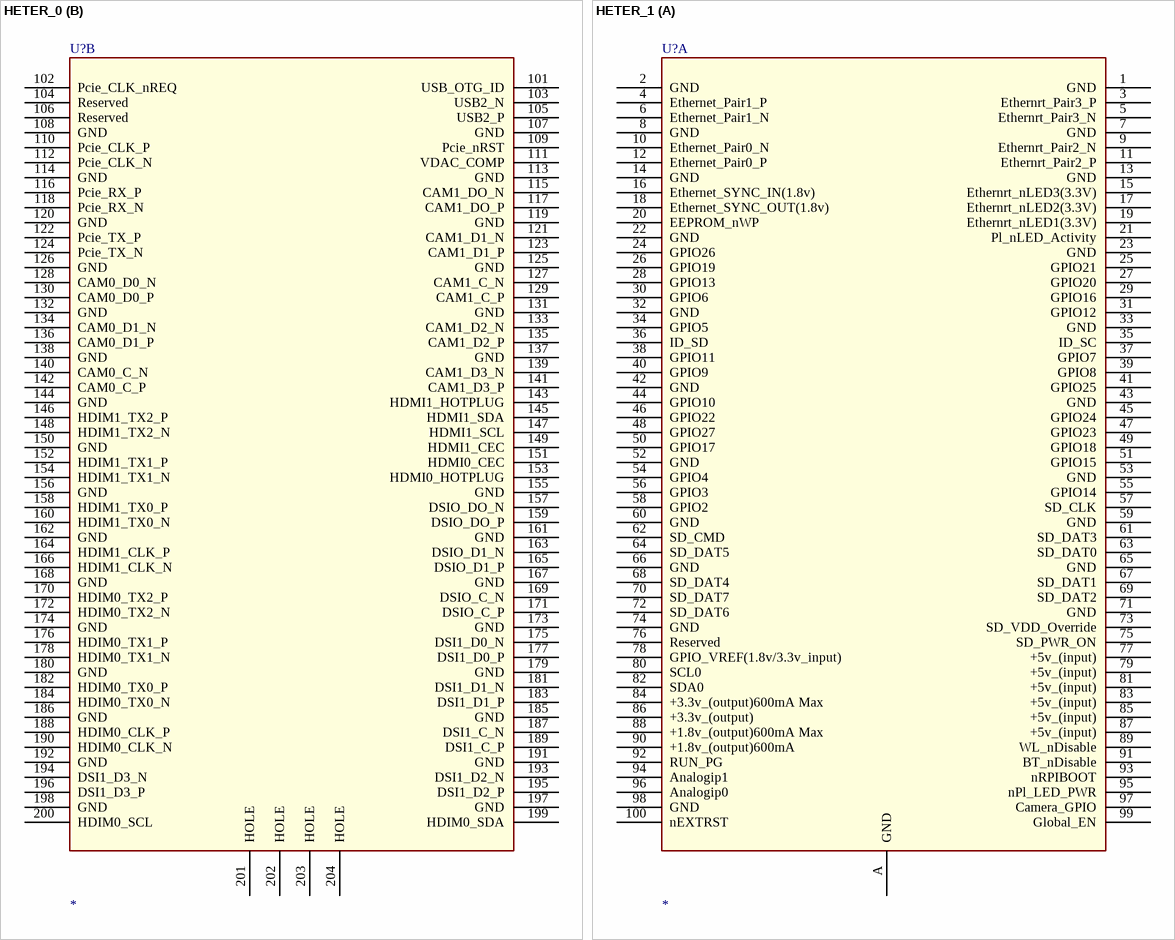
[diagram p9: symbols HETER_0 to HETER_1]

## HETER_0
designator U?
part A pins: 1 GND, 2 GND, 3 Ethernrt_Pair3_P, 4 Ethernet_Pair1_P, 5 Ethernrt_Pair3_N, 6 Ethernet_Pair1_N, 7 GND, 8 GND, 9 Ethernrt_Pair2_N, 10 Ethernet_Pair0_N, 11 Ethernrt_Pair2_P, 12 Ethernet_Pair0_P, 13 GND, 14 GND, 15 Ethernrt_nLED3(3.3V), 16 Ethernet_SYNC_IN(1.8v), 17 Ethernrt_nLED2(3.3V), 18 Ethernet_SYNC_OUT(1.8v), 19 Ethernrt_nLED1(3.3V), 20 EEPROM_nWP, 21 Pl_nLED_Activity, 22 GND, 23 GND, 24 GPIO26, 25 GPIO21, 26 GPIO19, 27 GPIO20, 28 GPIO13, 29 GPIO16, 30 GPIO6, 31 GPIO12, 32 GND, 33 GND, 34 GPIO5, 35 ID_SC, 36 ID_SD, 37 GPIO7, 38 GPIO11, 39 GPIO8, 40 GPIO9, 41 GPIO25, 42 GND, 43 GND, 44 GPIO10, 45 GPIO24, 46 GPIO22, 47 GPIO23, 48 GPIO27, 49 GPIO18, 50 GPIO17, 51 GPIO15, 52 GND, 53 GND, 54 GPIO4, 55 GPIO14, 56 GPIO3, 57 SD_CLK, 58 GPIO2, 59 GND, 60 GND, 61 SD_DAT3, 62 SD_CMD, 63 SD_DAT0, 64 SD_DAT5, 65 GND, 66 GND, 67 SD_DAT1, 68 SD_DAT4, 69 SD_DAT2, 70 SD_DAT7, 71 GND, 72 SD_DAT6, 73 SD_VDD_Override, 74 GND, 75 SD_PWR_ON, 76 Reserved, 77 +5v_(input), 78 GPIO_VREF(1.8v/3.3v_input), 79 +5v_(input), 80 SCL0, 81 +5v_(input), 82 SDA0, 83 +5v_(input), 84 +3.3v_(output)600mA Max, 85 +5v_(input), 86 +3.3v_(output), 87 +5v_(input), 88 +1.8v_(output)600mA Max, 89 WL_nDisable, 90 +1.8v_(output)600mA , 91 BT_nDisable, 92 RUN_PG, 93 nRPIBOOT, 94 Analogip1, 95 nPl_LED_PWR, 96 Analogip0, 97 Camera_GPIO, 98 GND, 99 Global_EN, 100 nEXTRST, A GND, B GND, C GND, D GND, E GND, F GND, G GND, H GND
part B pins: 101 USB_OTG_ID, 102 Pcie_CLK_nREQ, 103 USB2_N, 104 Reserved, 105 USB2_P, 106 Reserved, 107 GND, 108 GND, 109 Pcie_nRST, 110 Pcie_CLK_P, 111 VDAC_COMP, 112 Pcie_CLK_N, 113 GND, 114 GND, 115 CAM1_DO_N, 116 Pcie_RX_P, 117 CAM1_DO_P, 118 Pcie_RX_N, 119 GND, 120 GND, 121 CAM1_D1_N, 122 Pcie_TX_P, 123 CAM1_D1_P, 124 Pcie_TX_N, 125 GND, 126 GND, 127 CAM1_C_N, 128 CAM0_D0_N, 129 CAM1_C_P, 130 CAM0_D0_P, 131 GND, 132 GND, 133 CAM1_D2_N, 134 CAM0_D1_N, 135 CAM1_D2_P, 136 CAM0_D1_P, 137 GND, 138 GND, 139 CAM1_D3_N, 140 CAM0_C_N, 141 CAM1_D3_P, 142 CAM0_C_P, 143 HDMI1_HOTPLUG, 144 GND, 145 HDMI1_SDA, 146 HDIM1_TX2_P, 147 HDMI1_SCL, 148 HDIM1_TX2_N, 149 HDMI1_CEC, 150 GND, 151 HDMI0_CEC, 152 HDIM1_TX1_P, 153 HDMI0_HOTPLUG, 154 HDIM1_TX1_N, 155 GND, 156 GND, 157 DSIO_DO_N, 158 HDIM1_TX0_P, 159 DSIO_DO_P, 160 HDIM1_TX0_N, 161 GND, 162 GND, 163 DSIO_D1_N, 164 HDIM1_CLK_P, 165 DSIO_D1_P, 166 HDIM1_CLK_N, 167 GND, 168 GND, 169 DSIO_C_N, 170 HDIM0_TX2_P, 171 DSIO_C_P, 172 HDIM0_TX2_N, 173 GND, 174 GND, 175 DSI1_D0_N, 176 HDIM0_TX1_P, 177 DSI1_D0_P, 178 HDIM0_TX1_N, 179 GND, 180 GND, 181 DSI1_D1_N, 182 HDIM0_TX0_P, 183 DSI1_D1_P, 184 HDIM0_TX0_N, 185 GND, 186 GND, 187 DSI1_C_N, 188 HDIM0_CLK_P, 189 DSI1_C_P, 190 HDIM0_CLK_N, 191 GND, 192 GND, 193 DSI1_D2_N, 194 DSI1_D3_N, 195 DSI1_D2_P, 196 DSI1_D3_P, 197 GND, 198 GND, 199 HDIM0_SDA, 200 HDIM0_SCL, 201 HOLE, 202 HOLE, 203 HOLE, 204 HOLE

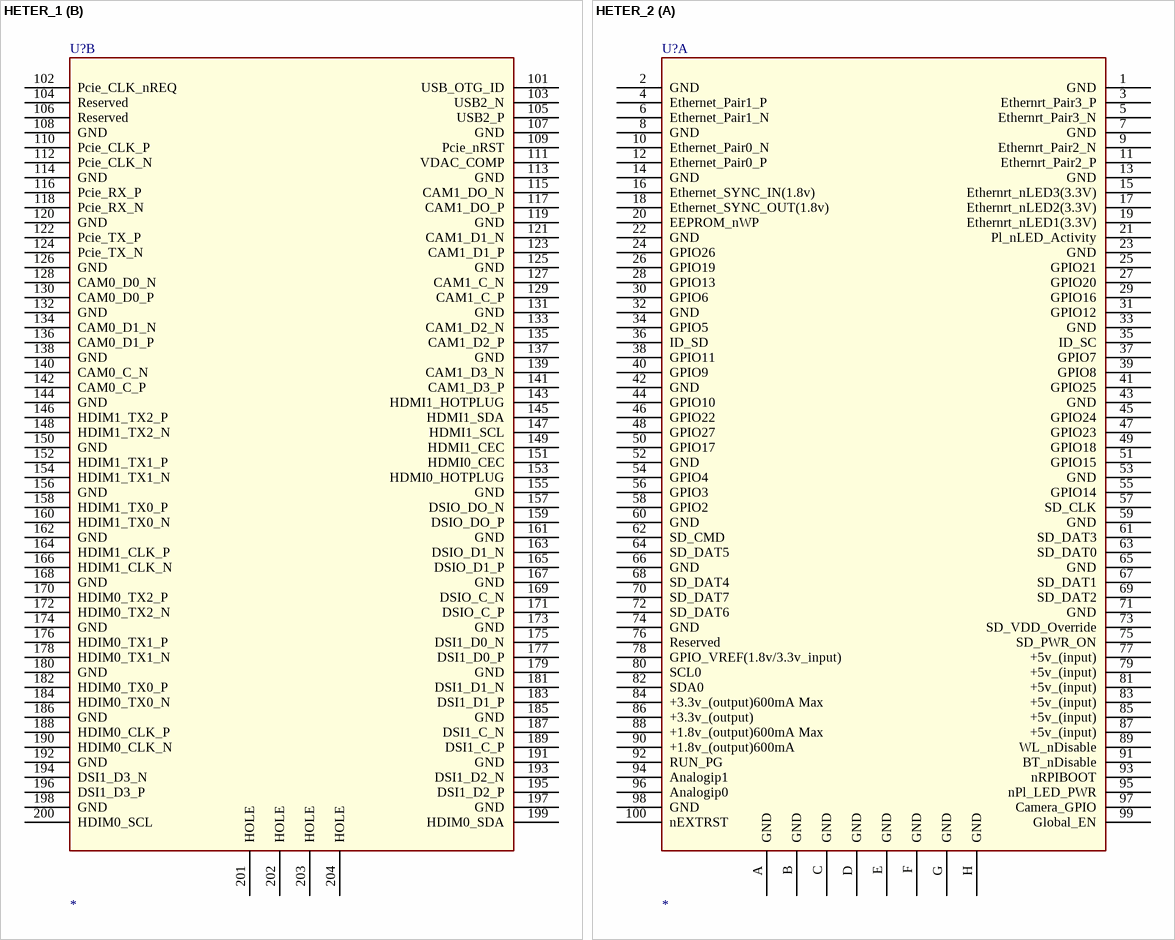
[diagram p10: symbols HETER_1 to HETER_2]

## HETER_1
designator U?
part A pins: 1 GND, 2 GND, 3 Ethernrt_Pair3_P, 4 Ethernet_Pair1_P, 5 Ethernrt_Pair3_N, 6 Ethernet_Pair1_N, 7 GND, 8 GND, 9 Ethernrt_Pair2_N, 10 Ethernet_Pair0_N, 11 Ethernrt_Pair2_P, 12 Ethernet_Pair0_P, 13 GND, 14 GND, 15 Ethernrt_nLED3(3.3V), 16 Ethernet_SYNC_IN(1.8v), 17 Ethernrt_nLED2(3.3V), 18 Ethernet_SYNC_OUT(1.8v), 19 Ethernrt_nLED1(3.3V), 20 EEPROM_nWP, 21 Pl_nLED_Activity, 22 GND, 23 GND, 24 GPIO26, 25 GPIO21, 26 GPIO19, 27 GPIO20, 28 GPIO13, 29 GPIO16, 30 GPIO6, 31 GPIO12, 32 GND, 33 GND, 34 GPIO5, 35 ID_SC, 36 ID_SD, 37 GPIO7, 38 GPIO11, 39 GPIO8, 40 GPIO9, 41 GPIO25, 42 GND, 43 GND, 44 GPIO10, 45 GPIO24, 46 GPIO22, 47 GPIO23, 48 GPIO27, 49 GPIO18, 50 GPIO17, 51 GPIO15, 52 GND, 53 GND, 54 GPIO4, 55 GPIO14, 56 GPIO3, 57 SD_CLK, 58 GPIO2, 59 GND, 60 GND, 61 SD_DAT3, 62 SD_CMD, 63 SD_DAT0, 64 SD_DAT5, 65 GND, 66 GND, 67 SD_DAT1, 68 SD_DAT4, 69 SD_DAT2, 70 SD_DAT7, 71 GND, 72 SD_DAT6, 73 SD_VDD_Override, 74 GND, 75 SD_PWR_ON, 76 Reserved, 77 +5v_(input), 78 GPIO_VREF(1.8v/3.3v_input), 79 +5v_(input), 80 SCL0, 81 +5v_(input), 82 SDA0, 83 +5v_(input), 84 +3.3v_(output)600mA Max, 85 +5v_(input), 86 +3.3v_(output), 87 +5v_(input), 88 +1.8v_(output)600mA Max, 89 WL_nDisable, 90 +1.8v_(output)600mA , 91 BT_nDisable, 92 RUN_PG, 93 nRPIBOOT, 94 Analogip1, 95 nPl_LED_PWR, 96 Analogip0, 97 Camera_GPIO, 98 GND, 99 Global_EN, 100 nEXTRST, A GND
part B pins: 101 USB_OTG_ID, 102 Pcie_CLK_nREQ, 103 USB2_N, 104 Reserved, 105 USB2_P, 106 Reserved, 107 GND, 108 GND, 109 Pcie_nRST, 110 Pcie_CLK_P, 111 VDAC_COMP, 112 Pcie_CLK_N, 113 GND, 114 GND, 115 CAM1_DO_N, 116 Pcie_RX_P, 117 CAM1_DO_P, 118 Pcie_RX_N, 119 GND, 120 GND, 121 CAM1_D1_N, 122 Pcie_TX_P, 123 CAM1_D1_P, 124 Pcie_TX_N, 125 GND, 126 GND, 127 CAM1_C_N, 128 CAM0_D0_N, 129 CAM1_C_P, 130 CAM0_D0_P, 131 GND, 132 GND, 133 CAM1_D2_N, 134 CAM0_D1_N, 135 CAM1_D2_P, 136 CAM0_D1_P, 137 GND, 138 GND, 139 CAM1_D3_N, 140 CAM0_C_N, 141 CAM1_D3_P, 142 CAM0_C_P, 143 HDMI1_HOTPLUG, 144 GND, 145 HDMI1_SDA, 146 HDIM1_TX2_P, 147 HDMI1_SCL, 148 HDIM1_TX2_N, 149 HDMI1_CEC, 150 GND, 151 HDMI0_CEC, 152 HDIM1_TX1_P, 153 HDMI0_HOTPLUG, 154 HDIM1_TX1_N, 155 GND, 156 GND, 157 DSIO_DO_N, 158 HDIM1_TX0_P, 159 DSIO_DO_P, 160 HDIM1_TX0_N, 161 GND, 162 GND, 163 DSIO_D1_N, 164 HDIM1_CLK_P, 165 DSIO_D1_P, 166 HDIM1_CLK_N, 167 GND, 168 GND, 169 DSIO_C_N, 170 HDIM0_TX2_P, 171 DSIO_C_P, 172 HDIM0_TX2_N, 173 GND, 174 GND, 175 DSI1_D0_N, 176 HDIM0_TX1_P, 177 DSI1_D0_P, 178 HDIM0_TX1_N, 179 GND, 180 GND, 181 DSI1_D1_N, 182 HDIM0_TX0_P, 183 DSI1_D1_P, 184 HDIM0_TX0_N, 185 GND, 186 GND, 187 DSI1_C_N, 188 HDIM0_CLK_P, 189 DSI1_C_P, 190 HDIM0_CLK_N, 191 GND, 192 GND, 193 DSI1_D2_N, 194 DSI1_D3_N, 195 DSI1_D2_P, 196 DSI1_D3_P, 197 GND, 198 GND, 199 HDIM0_SDA, 200 HDIM0_SCL, 201 HOLE, 202 HOLE, 203 HOLE, 204 HOLE

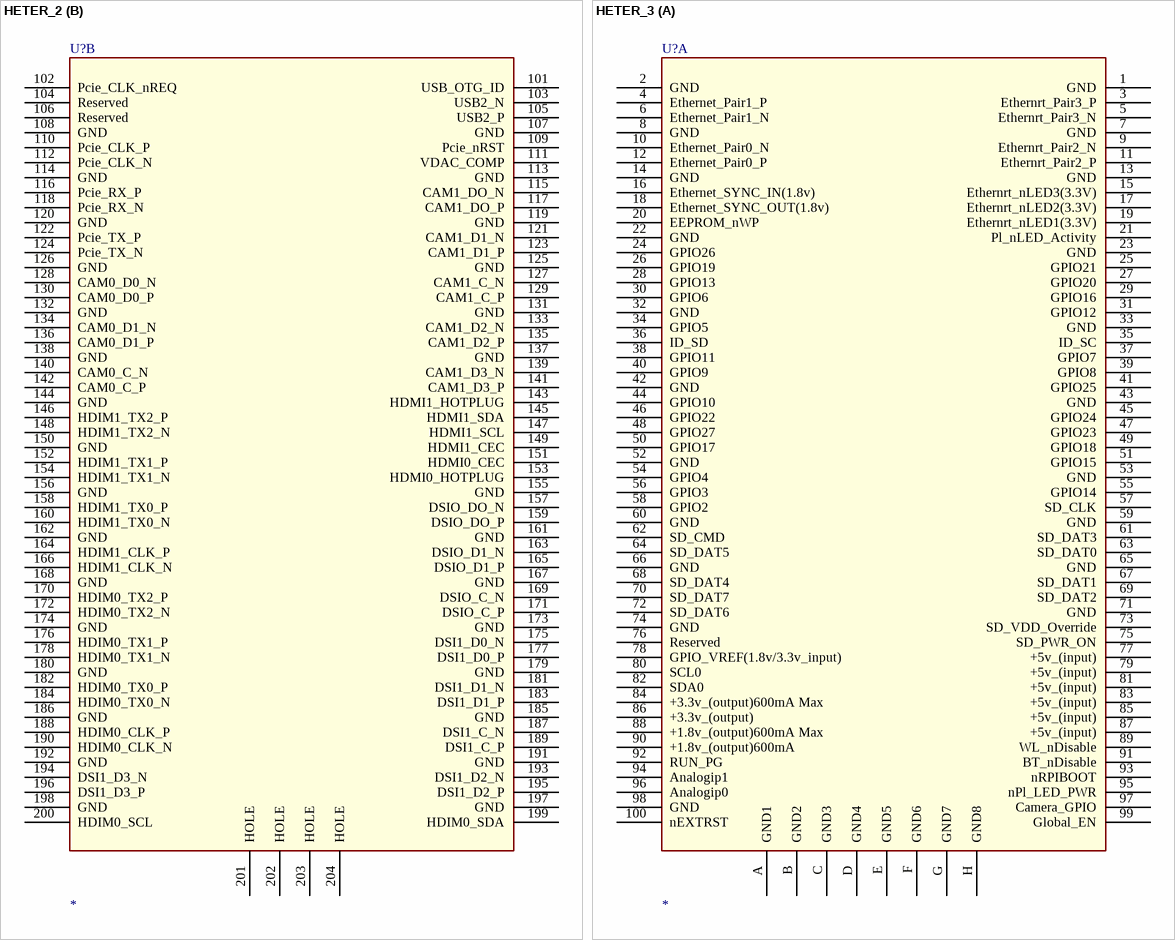
[diagram p11: symbols HETER_2 to HETER_3]

## HETER_2
designator U?
part A pins: 1 GND, 2 GND, 3 Ethernrt_Pair3_P, 4 Ethernet_Pair1_P, 5 Ethernrt_Pair3_N, 6 Ethernet_Pair1_N, 7 GND, 8 GND, 9 Ethernrt_Pair2_N, 10 Ethernet_Pair0_N, 11 Ethernrt_Pair2_P, 12 Ethernet_Pair0_P, 13 GND, 14 GND, 15 Ethernrt_nLED3(3.3V), 16 Ethernet_SYNC_IN(1.8v), 17 Ethernrt_nLED2(3.3V), 18 Ethernet_SYNC_OUT(1.8v), 19 Ethernrt_nLED1(3.3V), 20 EEPROM_nWP, 21 Pl_nLED_Activity, 22 GND, 23 GND, 24 GPIO26, 25 GPIO21, 26 GPIO19, 27 GPIO20, 28 GPIO13, 29 GPIO16, 30 GPIO6, 31 GPIO12, 32 GND, 33 GND, 34 GPIO5, 35 ID_SC, 36 ID_SD, 37 GPIO7, 38 GPIO11, 39 GPIO8, 40 GPIO9, 41 GPIO25, 42 GND, 43 GND, 44 GPIO10, 45 GPIO24, 46 GPIO22, 47 GPIO23, 48 GPIO27, 49 GPIO18, 50 GPIO17, 51 GPIO15, 52 GND, 53 GND, 54 GPIO4, 55 GPIO14, 56 GPIO3, 57 SD_CLK, 58 GPIO2, 59 GND, 60 GND, 61 SD_DAT3, 62 SD_CMD, 63 SD_DAT0, 64 SD_DAT5, 65 GND, 66 GND, 67 SD_DAT1, 68 SD_DAT4, 69 SD_DAT2, 70 SD_DAT7, 71 GND, 72 SD_DAT6, 73 SD_VDD_Override, 74 GND, 75 SD_PWR_ON, 76 Reserved, 77 +5v_(input), 78 GPIO_VREF(1.8v/3.3v_input), 79 +5v_(input), 80 SCL0, 81 +5v_(input), 82 SDA0, 83 +5v_(input), 84 +3.3v_(output)600mA Max, 85 +5v_(input), 86 +3.3v_(output), 87 +5v_(input), 88 +1.8v_(output)600mA Max, 89 WL_nDisable, 90 +1.8v_(output)600mA , 91 BT_nDisable, 92 RUN_PG, 93 nRPIBOOT, 94 Analogip1, 95 nPl_LED_PWR, 96 Analogip0, 97 Camera_GPIO, 98 GND, 99 Global_EN, 100 nEXTRST, A GND, B GND, C GND, D GND, E GND, F GND, G GND, H GND
part B pins: 101 USB_OTG_ID, 102 Pcie_CLK_nREQ, 103 USB2_N, 104 Reserved, 105 USB2_P, 106 Reserved, 107 GND, 108 GND, 109 Pcie_nRST, 110 Pcie_CLK_P, 111 VDAC_COMP, 112 Pcie_CLK_N, 113 GND, 114 GND, 115 CAM1_DO_N, 116 Pcie_RX_P, 117 CAM1_DO_P, 118 Pcie_RX_N, 119 GND, 120 GND, 121 CAM1_D1_N, 122 Pcie_TX_P, 123 CAM1_D1_P, 124 Pcie_TX_N, 125 GND, 126 GND, 127 CAM1_C_N, 128 CAM0_D0_N, 129 CAM1_C_P, 130 CAM0_D0_P, 131 GND, 132 GND, 133 CAM1_D2_N, 134 CAM0_D1_N, 135 CAM1_D2_P, 136 CAM0_D1_P, 137 GND, 138 GND, 139 CAM1_D3_N, 140 CAM0_C_N, 141 CAM1_D3_P, 142 CAM0_C_P, 143 HDMI1_HOTPLUG, 144 GND, 145 HDMI1_SDA, 146 HDIM1_TX2_P, 147 HDMI1_SCL, 148 HDIM1_TX2_N, 149 HDMI1_CEC, 150 GND, 151 HDMI0_CEC, 152 HDIM1_TX1_P, 153 HDMI0_HOTPLUG, 154 HDIM1_TX1_N, 155 GND, 156 GND, 157 DSIO_DO_N, 158 HDIM1_TX0_P, 159 DSIO_DO_P, 160 HDIM1_TX0_N, 161 GND, 162 GND, 163 DSIO_D1_N, 164 HDIM1_CLK_P, 165 DSIO_D1_P, 166 HDIM1_CLK_N, 167 GND, 168 GND, 169 DSIO_C_N, 170 HDIM0_TX2_P, 171 DSIO_C_P, 172 HDIM0_TX2_N, 173 GND, 174 GND, 175 DSI1_D0_N, 176 HDIM0_TX1_P, 177 DSI1_D0_P, 178 HDIM0_TX1_N, 179 GND, 180 GND, 181 DSI1_D1_N, 182 HDIM0_TX0_P, 183 DSI1_D1_P, 184 HDIM0_TX0_N, 185 GND, 186 GND, 187 DSI1_C_N, 188 HDIM0_CLK_P, 189 DSI1_C_P, 190 HDIM0_CLK_N, 191 GND, 192 GND, 193 DSI1_D2_N, 194 DSI1_D3_N, 195 DSI1_D2_P, 196 DSI1_D3_P, 197 GND, 198 GND, 199 HDIM0_SDA, 200 HDIM0_SCL, 201 HOLE, 202 HOLE, 203 HOLE, 204 HOLE

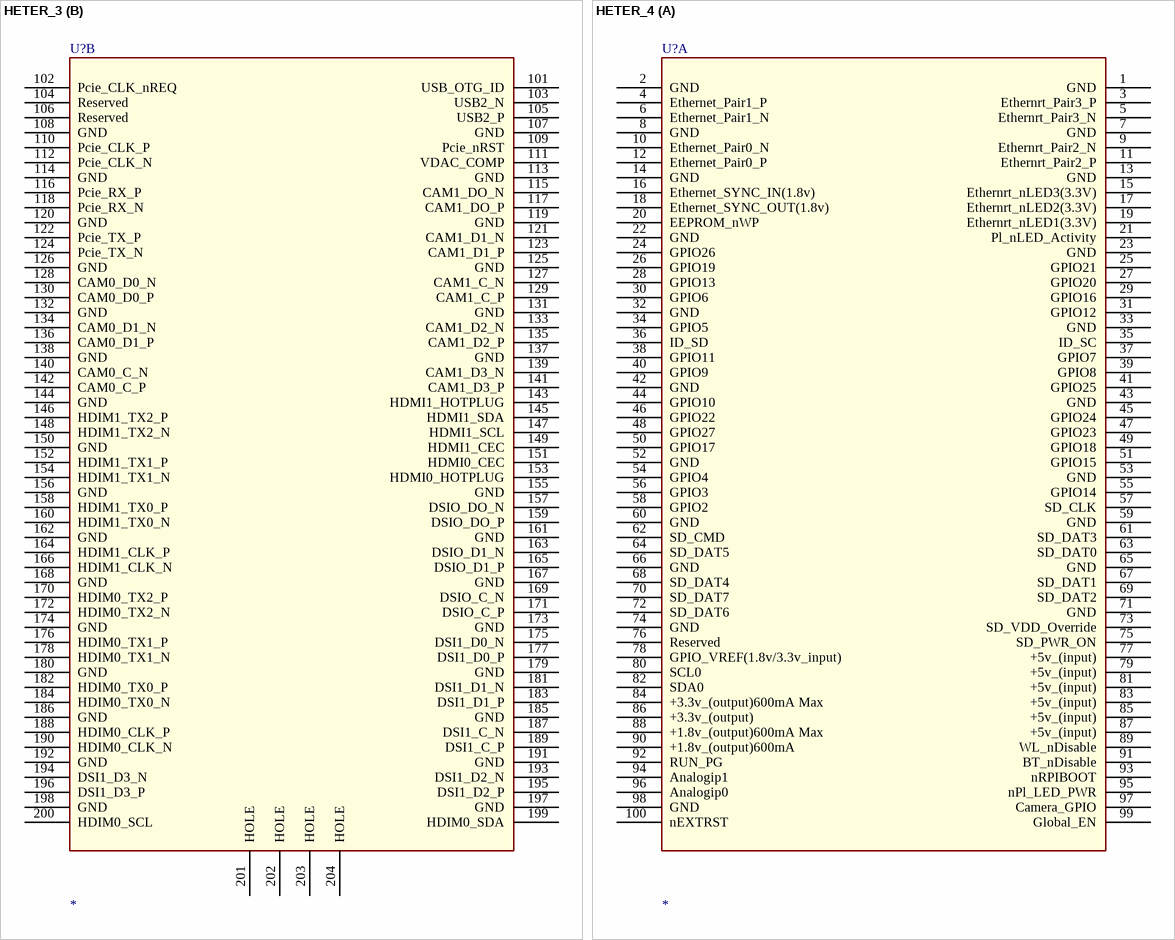
[diagram p12: symbols HETER_3 to HETER_4]

## HETER_3
designator U?
part A pins: 1 GND, 2 GND, 3 Ethernrt_Pair3_P, 4 Ethernet_Pair1_P, 5 Ethernrt_Pair3_N, 6 Ethernet_Pair1_N, 7 GND, 8 GND, 9 Ethernrt_Pair2_N, 10 Ethernet_Pair0_N, 11 Ethernrt_Pair2_P, 12 Ethernet_Pair0_P, 13 GND, 14 GND, 15 Ethernrt_nLED3(3.3V), 16 Ethernet_SYNC_IN(1.8v), 17 Ethernrt_nLED2(3.3V), 18 Ethernet_SYNC_OUT(1.8v), 19 Ethernrt_nLED1(3.3V), 20 EEPROM_nWP, 21 Pl_nLED_Activity, 22 GND, 23 GND, 24 GPIO26, 25 GPIO21, 26 GPIO19, 27 GPIO20, 28 GPIO13, 29 GPIO16, 30 GPIO6, 31 GPIO12, 32 GND, 33 GND, 34 GPIO5, 35 ID_SC, 36 ID_SD, 37 GPIO7, 38 GPIO11, 39 GPIO8, 40 GPIO9, 41 GPIO25, 42 GND, 43 GND, 44 GPIO10, 45 GPIO24, 46 GPIO22, 47 GPIO23, 48 GPIO27, 49 GPIO18, 50 GPIO17, 51 GPIO15, 52 GND, 53 GND, 54 GPIO4, 55 GPIO14, 56 GPIO3, 57 SD_CLK, 58 GPIO2, 59 GND, 60 GND, 61 SD_DAT3, 62 SD_CMD, 63 SD_DAT0, 64 SD_DAT5, 65 GND, 66 GND, 67 SD_DAT1, 68 SD_DAT4, 69 SD_DAT2, 70 SD_DAT7, 71 GND, 72 SD_DAT6, 73 SD_VDD_Override, 74 GND, 75 SD_PWR_ON, 76 Reserved, 77 +5v_(input), 78 GPIO_VREF(1.8v/3.3v_input), 79 +5v_(input), 80 SCL0, 81 +5v_(input), 82 SDA0, 83 +5v_(input), 84 +3.3v_(output)600mA Max, 85 +5v_(input), 86 +3.3v_(output), 87 +5v_(input), 88 +1.8v_(output)600mA Max, 89 WL_nDisable, 90 +1.8v_(output)600mA , 91 BT_nDisable, 92 RUN_PG, 93 nRPIBOOT, 94 Analogip1, 95 nPl_LED_PWR, 96 Analogip0, 97 Camera_GPIO, 98 GND, 99 Global_EN, 100 nEXTRST, A GND1, B GND2, C GND3, D GND4, E GND5, F GND6, G GND7, H GND8
part B pins: 101 USB_OTG_ID, 102 Pcie_CLK_nREQ, 103 USB2_N, 104 Reserved, 105 USB2_P, 106 Reserved, 107 GND, 108 GND, 109 Pcie_nRST, 110 Pcie_CLK_P, 111 VDAC_COMP, 112 Pcie_CLK_N, 113 GND, 114 GND, 115 CAM1_DO_N, 116 Pcie_RX_P, 117 CAM1_DO_P, 118 Pcie_RX_N, 119 GND, 120 GND, 121 CAM1_D1_N, 122 Pcie_TX_P, 123 CAM1_D1_P, 124 Pcie_TX_N, 125 GND, 126 GND, 127 CAM1_C_N, 128 CAM0_D0_N, 129 CAM1_C_P, 130 CAM0_D0_P, 131 GND, 132 GND, 133 CAM1_D2_N, 134 CAM0_D1_N, 135 CAM1_D2_P, 136 CAM0_D1_P, 137 GND, 138 GND, 139 CAM1_D3_N, 140 CAM0_C_N, 141 CAM1_D3_P, 142 CAM0_C_P, 143 HDMI1_HOTPLUG, 144 GND, 145 HDMI1_SDA, 146 HDIM1_TX2_P, 147 HDMI1_SCL, 148 HDIM1_TX2_N, 149 HDMI1_CEC, 150 GND, 151 HDMI0_CEC, 152 HDIM1_TX1_P, 153 HDMI0_HOTPLUG, 154 HDIM1_TX1_N, 155 GND, 156 GND, 157 DSIO_DO_N, 158 HDIM1_TX0_P, 159 DSIO_DO_P, 160 HDIM1_TX0_N, 161 GND, 162 GND, 163 DSIO_D1_N, 164 HDIM1_CLK_P, 165 DSIO_D1_P, 166 HDIM1_CLK_N, 167 GND, 168 GND, 169 DSIO_C_N, 170 HDIM0_TX2_P, 171 DSIO_C_P, 172 HDIM0_TX2_N, 173 GND, 174 GND, 175 DSI1_D0_N, 176 HDIM0_TX1_P, 177 DSI1_D0_P, 178 HDIM0_TX1_N, 179 GND, 180 GND, 181 DSI1_D1_N, 182 HDIM0_TX0_P, 183 DSI1_D1_P, 184 HDIM0_TX0_N, 185 GND, 186 GND, 187 DSI1_C_N, 188 HDIM0_CLK_P, 189 DSI1_C_P, 190 HDIM0_CLK_N, 191 GND, 192 GND, 193 DSI1_D2_N, 194 DSI1_D3_N, 195 DSI1_D2_P, 196 DSI1_D3_P, 197 GND, 198 GND, 199 HDIM0_SDA, 200 HDIM0_SCL, 201 HOLE, 202 HOLE, 203 HOLE, 204 HOLE

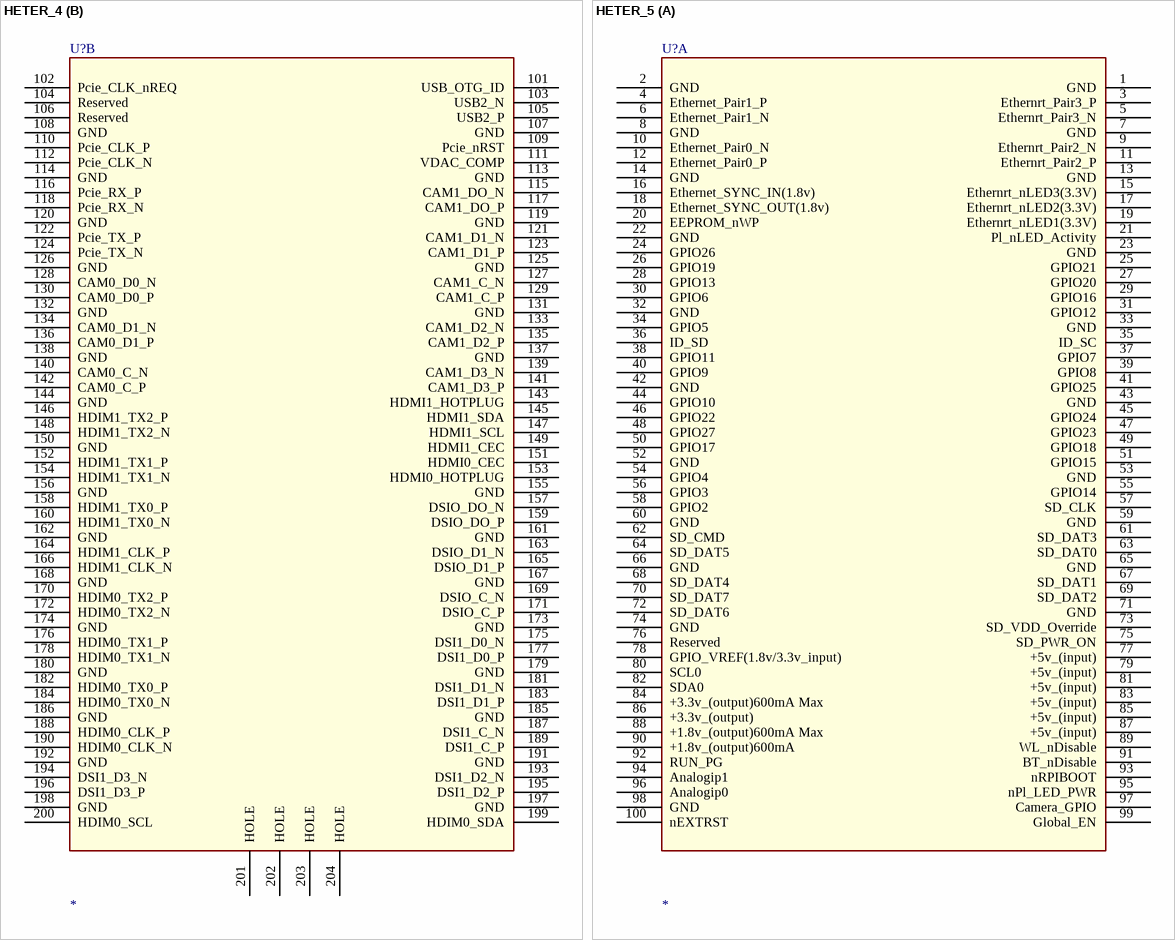
[diagram p13: symbols HETER_4 to HETER_5]

## HETER_4
designator U?
part A pins: 1 GND, 2 GND, 3 Ethernrt_Pair3_P, 4 Ethernet_Pair1_P, 5 Ethernrt_Pair3_N, 6 Ethernet_Pair1_N, 7 GND, 8 GND, 9 Ethernrt_Pair2_N, 10 Ethernet_Pair0_N, 11 Ethernrt_Pair2_P, 12 Ethernet_Pair0_P, 13 GND, 14 GND, 15 Ethernrt_nLED3(3.3V), 16 Ethernet_SYNC_IN(1.8v), 17 Ethernrt_nLED2(3.3V), 18 Ethernet_SYNC_OUT(1.8v), 19 Ethernrt_nLED1(3.3V), 20 EEPROM_nWP, 21 Pl_nLED_Activity, 22 GND, 23 GND, 24 GPIO26, 25 GPIO21, 26 GPIO19, 27 GPIO20, 28 GPIO13, 29 GPIO16, 30 GPIO6, 31 GPIO12, 32 GND, 33 GND, 34 GPIO5, 35 ID_SC, 36 ID_SD, 37 GPIO7, 38 GPIO11, 39 GPIO8, 40 GPIO9, 41 GPIO25, 42 GND, 43 GND, 44 GPIO10, 45 GPIO24, 46 GPIO22, 47 GPIO23, 48 GPIO27, 49 GPIO18, 50 GPIO17, 51 GPIO15, 52 GND, 53 GND, 54 GPIO4, 55 GPIO14, 56 GPIO3, 57 SD_CLK, 58 GPIO2, 59 GND, 60 GND, 61 SD_DAT3, 62 SD_CMD, 63 SD_DAT0, 64 SD_DAT5, 65 GND, 66 GND, 67 SD_DAT1, 68 SD_DAT4, 69 SD_DAT2, 70 SD_DAT7, 71 GND, 72 SD_DAT6, 73 SD_VDD_Override, 74 GND, 75 SD_PWR_ON, 76 Reserved, 77 +5v_(input), 78 GPIO_VREF(1.8v/3.3v_input), 79 +5v_(input), 80 SCL0, 81 +5v_(input), 82 SDA0, 83 +5v_(input), 84 +3.3v_(output)600mA Max, 85 +5v_(input), 86 +3.3v_(output), 87 +5v_(input), 88 +1.8v_(output)600mA Max, 89 WL_nDisable, 90 +1.8v_(output)600mA , 91 BT_nDisable, 92 RUN_PG, 93 nRPIBOOT, 94 Analogip1, 95 nPl_LED_PWR, 96 Analogip0, 97 Camera_GPIO, 98 GND, 99 Global_EN, 100 nEXTRST
part B pins: 101 USB_OTG_ID, 102 Pcie_CLK_nREQ, 103 USB2_N, 104 Reserved, 105 USB2_P, 106 Reserved, 107 GND, 108 GND, 109 Pcie_nRST, 110 Pcie_CLK_P, 111 VDAC_COMP, 112 Pcie_CLK_N, 113 GND, 114 GND, 115 CAM1_DO_N, 116 Pcie_RX_P, 117 CAM1_DO_P, 118 Pcie_RX_N, 119 GND, 120 GND, 121 CAM1_D1_N, 122 Pcie_TX_P, 123 CAM1_D1_P, 124 Pcie_TX_N, 125 GND, 126 GND, 127 CAM1_C_N, 128 CAM0_D0_N, 129 CAM1_C_P, 130 CAM0_D0_P, 131 GND, 132 GND, 133 CAM1_D2_N, 134 CAM0_D1_N, 135 CAM1_D2_P, 136 CAM0_D1_P, 137 GND, 138 GND, 139 CAM1_D3_N, 140 CAM0_C_N, 141 CAM1_D3_P, 142 CAM0_C_P, 143 HDMI1_HOTPLUG, 144 GND, 145 HDMI1_SDA, 146 HDIM1_TX2_P, 147 HDMI1_SCL, 148 HDIM1_TX2_N, 149 HDMI1_CEC, 150 GND, 151 HDMI0_CEC, 152 HDIM1_TX1_P, 153 HDMI0_HOTPLUG, 154 HDIM1_TX1_N, 155 GND, 156 GND, 157 DSIO_DO_N, 158 HDIM1_TX0_P, 159 DSIO_DO_P, 160 HDIM1_TX0_N, 161 GND, 162 GND, 163 DSIO_D1_N, 164 HDIM1_CLK_P, 165 DSIO_D1_P, 166 HDIM1_CLK_N, 167 GND, 168 GND, 169 DSIO_C_N, 170 HDIM0_TX2_P, 171 DSIO_C_P, 172 HDIM0_TX2_N, 173 GND, 174 GND, 175 DSI1_D0_N, 176 HDIM0_TX1_P, 177 DSI1_D0_P, 178 HDIM0_TX1_N, 179 GND, 180 GND, 181 DSI1_D1_N, 182 HDIM0_TX0_P, 183 DSI1_D1_P, 184 HDIM0_TX0_N, 185 GND, 186 GND, 187 DSI1_C_N, 188 HDIM0_CLK_P, 189 DSI1_C_P, 190 HDIM0_CLK_N, 191 GND, 192 GND, 193 DSI1_D2_N, 194 DSI1_D3_N, 195 DSI1_D2_P, 196 DSI1_D3_P, 197 GND, 198 GND, 199 HDIM0_SDA, 200 HDIM0_SCL, 201 HOLE, 202 HOLE, 203 HOLE, 204 HOLE

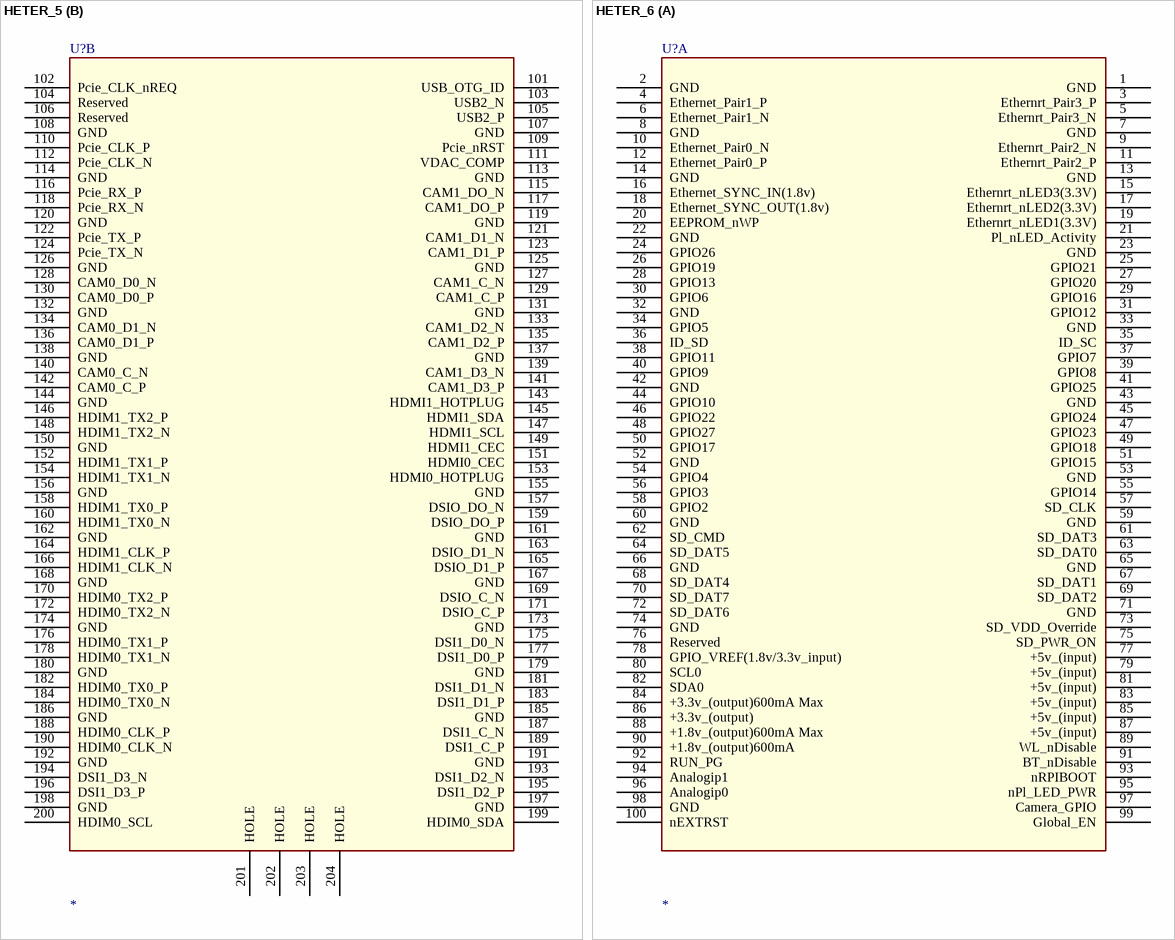
[diagram p14: symbols HETER_5 to HETER_6]

## HETER_5
designator U?
part A pins: 1 GND, 2 GND, 3 Ethernrt_Pair3_P, 4 Ethernet_Pair1_P, 5 Ethernrt_Pair3_N, 6 Ethernet_Pair1_N, 7 GND, 8 GND, 9 Ethernrt_Pair2_N, 10 Ethernet_Pair0_N, 11 Ethernrt_Pair2_P, 12 Ethernet_Pair0_P, 13 GND, 14 GND, 15 Ethernrt_nLED3(3.3V), 16 Ethernet_SYNC_IN(1.8v), 17 Ethernrt_nLED2(3.3V), 18 Ethernet_SYNC_OUT(1.8v), 19 Ethernrt_nLED1(3.3V), 20 EEPROM_nWP, 21 Pl_nLED_Activity, 22 GND, 23 GND, 24 GPIO26, 25 GPIO21, 26 GPIO19, 27 GPIO20, 28 GPIO13, 29 GPIO16, 30 GPIO6, 31 GPIO12, 32 GND, 33 GND, 34 GPIO5, 35 ID_SC, 36 ID_SD, 37 GPIO7, 38 GPIO11, 39 GPIO8, 40 GPIO9, 41 GPIO25, 42 GND, 43 GND, 44 GPIO10, 45 GPIO24, 46 GPIO22, 47 GPIO23, 48 GPIO27, 49 GPIO18, 50 GPIO17, 51 GPIO15, 52 GND, 53 GND, 54 GPIO4, 55 GPIO14, 56 GPIO3, 57 SD_CLK, 58 GPIO2, 59 GND, 60 GND, 61 SD_DAT3, 62 SD_CMD, 63 SD_DAT0, 64 SD_DAT5, 65 GND, 66 GND, 67 SD_DAT1, 68 SD_DAT4, 69 SD_DAT2, 70 SD_DAT7, 71 GND, 72 SD_DAT6, 73 SD_VDD_Override, 74 GND, 75 SD_PWR_ON, 76 Reserved, 77 +5v_(input), 78 GPIO_VREF(1.8v/3.3v_input), 79 +5v_(input), 80 SCL0, 81 +5v_(input), 82 SDA0, 83 +5v_(input), 84 +3.3v_(output)600mA Max, 85 +5v_(input), 86 +3.3v_(output), 87 +5v_(input), 88 +1.8v_(output)600mA Max, 89 WL_nDisable, 90 +1.8v_(output)600mA , 91 BT_nDisable, 92 RUN_PG, 93 nRPIBOOT, 94 Analogip1, 95 nPl_LED_PWR, 96 Analogip0, 97 Camera_GPIO, 98 GND, 99 Global_EN, 100 nEXTRST
part B pins: 101 USB_OTG_ID, 102 Pcie_CLK_nREQ, 103 USB2_N, 104 Reserved, 105 USB2_P, 106 Reserved, 107 GND, 108 GND, 109 Pcie_nRST, 110 Pcie_CLK_P, 111 VDAC_COMP, 112 Pcie_CLK_N, 113 GND, 114 GND, 115 CAM1_DO_N, 116 Pcie_RX_P, 117 CAM1_DO_P, 118 Pcie_RX_N, 119 GND, 120 GND, 121 CAM1_D1_N, 122 Pcie_TX_P, 123 CAM1_D1_P, 124 Pcie_TX_N, 125 GND, 126 GND, 127 CAM1_C_N, 128 CAM0_D0_N, 129 CAM1_C_P, 130 CAM0_D0_P, 131 GND, 132 GND, 133 CAM1_D2_N, 134 CAM0_D1_N, 135 CAM1_D2_P, 136 CAM0_D1_P, 137 GND, 138 GND, 139 CAM1_D3_N, 140 CAM0_C_N, 141 CAM1_D3_P, 142 CAM0_C_P, 143 HDMI1_HOTPLUG, 144 GND, 145 HDMI1_SDA, 146 HDIM1_TX2_P, 147 HDMI1_SCL, 148 HDIM1_TX2_N, 149 HDMI1_CEC, 150 GND, 151 HDMI0_CEC, 152 HDIM1_TX1_P, 153 HDMI0_HOTPLUG, 154 HDIM1_TX1_N, 155 GND, 156 GND, 157 DSIO_DO_N, 158 HDIM1_TX0_P, 159 DSIO_DO_P, 160 HDIM1_TX0_N, 161 GND, 162 GND, 163 DSIO_D1_N, 164 HDIM1_CLK_P, 165 DSIO_D1_P, 166 HDIM1_CLK_N, 167 GND, 168 GND, 169 DSIO_C_N, 170 HDIM0_TX2_P, 171 DSIO_C_P, 172 HDIM0_TX2_N, 173 GND, 174 GND, 175 DSI1_D0_N, 176 HDIM0_TX1_P, 177 DSI1_D0_P, 178 HDIM0_TX1_N, 179 GND, 180 GND, 181 DSI1_D1_N, 182 HDIM0_TX0_P, 183 DSI1_D1_P, 184 HDIM0_TX0_N, 185 GND, 186 GND, 187 DSI1_C_N, 188 HDIM0_CLK_P, 189 DSI1_C_P, 190 HDIM0_CLK_N, 191 GND, 192 GND, 193 DSI1_D2_N, 194 DSI1_D3_N, 195 DSI1_D2_P, 196 DSI1_D3_P, 197 GND, 198 GND, 199 HDIM0_SDA, 200 HDIM0_SCL, 201 HOLE, 202 HOLE, 203 HOLE, 204 HOLE

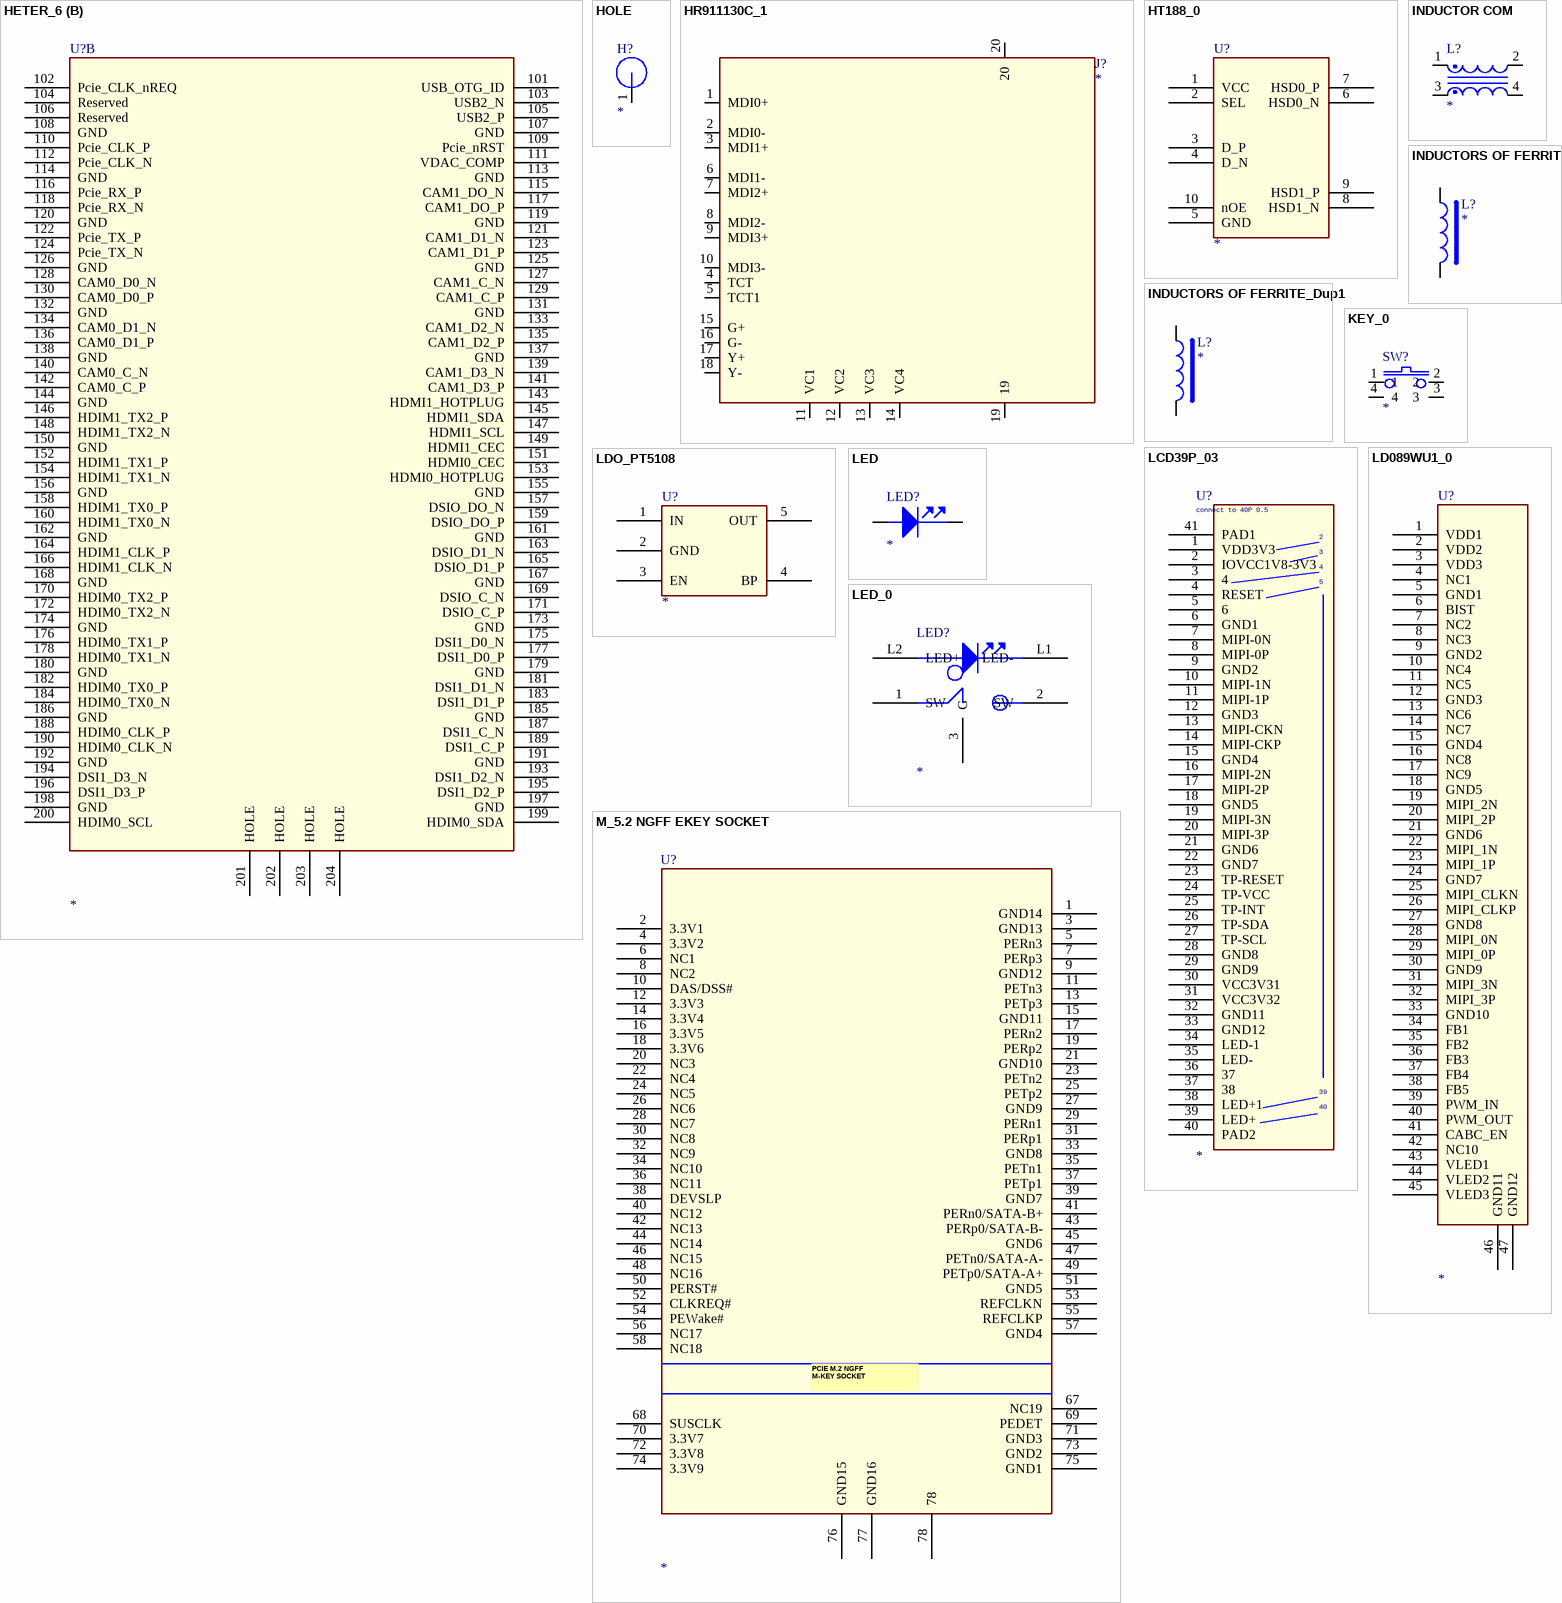
[diagram p15: symbols HETER_6 to M_5.2 NGFF EKEY SOCKET]

## HETER_6
designator U?
part A pins: 1 GND, 2 GND, 3 Ethernrt_Pair3_P, 4 Ethernet_Pair1_P, 5 Ethernrt_Pair3_N, 6 Ethernet_Pair1_N, 7 GND, 8 GND, 9 Ethernrt_Pair2_N, 10 Ethernet_Pair0_N, 11 Ethernrt_Pair2_P, 12 Ethernet_Pair0_P, 13 GND, 14 GND, 15 Ethernrt_nLED3(3.3V), 16 Ethernet_SYNC_IN(1.8v), 17 Ethernrt_nLED2(3.3V), 18 Ethernet_SYNC_OUT(1.8v), 19 Ethernrt_nLED1(3.3V), 20 EEPROM_nWP, 21 Pl_nLED_Activity, 22 GND, 23 GND, 24 GPIO26, 25 GPIO21, 26 GPIO19, 27 GPIO20, 28 GPIO13, 29 GPIO16, 30 GPIO6, 31 GPIO12, 32 GND, 33 GND, 34 GPIO5, 35 ID_SC, 36 ID_SD, 37 GPIO7, 38 GPIO11, 39 GPIO8, 40 GPIO9, 41 GPIO25, 42 GND, 43 GND, 44 GPIO10, 45 GPIO24, 46 GPIO22, 47 GPIO23, 48 GPIO27, 49 GPIO18, 50 GPIO17, 51 GPIO15, 52 GND, 53 GND, 54 GPIO4, 55 GPIO14, 56 GPIO3, 57 SD_CLK, 58 GPIO2, 59 GND, 60 GND, 61 SD_DAT3, 62 SD_CMD, 63 SD_DAT0, 64 SD_DAT5, 65 GND, 66 GND, 67 SD_DAT1, 68 SD_DAT4, 69 SD_DAT2, 70 SD_DAT7, 71 GND, 72 SD_DAT6, 73 SD_VDD_Override, 74 GND, 75 SD_PWR_ON, 76 Reserved, 77 +5v_(input), 78 GPIO_VREF(1.8v/3.3v_input), 79 +5v_(input), 80 SCL0, 81 +5v_(input), 82 SDA0, 83 +5v_(input), 84 +3.3v_(output)600mA Max, 85 +5v_(input), 86 +3.3v_(output), 87 +5v_(input), 88 +1.8v_(output)600mA Max, 89 WL_nDisable, 90 +1.8v_(output)600mA , 91 BT_nDisable, 92 RUN_PG, 93 nRPIBOOT, 94 Analogip1, 95 nPl_LED_PWR, 96 Analogip0, 97 Camera_GPIO, 98 GND, 99 Global_EN, 100 nEXTRST
part B pins: 101 USB_OTG_ID, 102 Pcie_CLK_nREQ, 103 USB2_N, 104 Reserved, 105 USB2_P, 106 Reserved, 107 GND, 108 GND, 109 Pcie_nRST, 110 Pcie_CLK_P, 111 VDAC_COMP, 112 Pcie_CLK_N, 113 GND, 114 GND, 115 CAM1_DO_N, 116 Pcie_RX_P, 117 CAM1_DO_P, 118 Pcie_RX_N, 119 GND, 120 GND, 121 CAM1_D1_N, 122 Pcie_TX_P, 123 CAM1_D1_P, 124 Pcie_TX_N, 125 GND, 126 GND, 127 CAM1_C_N, 128 CAM0_D0_N, 129 CAM1_C_P, 130 CAM0_D0_P, 131 GND, 132 GND, 133 CAM1_D2_N, 134 CAM0_D1_N, 135 CAM1_D2_P, 136 CAM0_D1_P, 137 GND, 138 GND, 139 CAM1_D3_N, 140 CAM0_C_N, 141 CAM1_D3_P, 142 CAM0_C_P, 143 HDMI1_HOTPLUG, 144 GND, 145 HDMI1_SDA, 146 HDIM1_TX2_P, 147 HDMI1_SCL, 148 HDIM1_TX2_N, 149 HDMI1_CEC, 150 GND, 151 HDMI0_CEC, 152 HDIM1_TX1_P, 153 HDMI0_HOTPLUG, 154 HDIM1_TX1_N, 155 GND, 156 GND, 157 DSIO_DO_N, 158 HDIM1_TX0_P, 159 DSIO_DO_P, 160 HDIM1_TX0_N, 161 GND, 162 GND, 163 DSIO_D1_N, 164 HDIM1_CLK_P, 165 DSIO_D1_P, 166 HDIM1_CLK_N, 167 GND, 168 GND, 169 DSIO_C_N, 170 HDIM0_TX2_P, 171 DSIO_C_P, 172 HDIM0_TX2_N, 173 GND, 174 GND, 175 DSI1_D0_N, 176 HDIM0_TX1_P, 177 DSI1_D0_P, 178 HDIM0_TX1_N, 179 GND, 180 GND, 181 DSI1_D1_N, 182 HDIM0_TX0_P, 183 DSI1_D1_P, 184 HDIM0_TX0_N, 185 GND, 186 GND, 187 DSI1_C_N, 188 HDIM0_CLK_P, 189 DSI1_C_P, 190 HDIM0_CLK_N, 191 GND, 192 GND, 193 DSI1_D2_N, 194 DSI1_D3_N, 195 DSI1_D2_P, 196 DSI1_D3_P, 197 GND, 198 GND, 199 HDIM0_SDA, 200 HDIM0_SCL, 201 HOLE, 202 HOLE, 203 HOLE, 204 HOLE

## HOLE
designator H?
footprint H3.8MM
pins: 1

## HR911130C_1
designator J?
VAL: J00-0061; DESIG: 10/100 base TX LXT971A; BOI: RJ45; FAB: PULSE; DEV: CON_PULSE_J00-61; REF: J00-0061
footprint RJ45_PULSE
pins: 1 MDI0+, 2 MDI0-, 3 MDI1+, 4 TCT, 5 TCT1, 6 MDI1-, 7 MDI2+, 8 MDI2-, 9 MDI3+, 10 MDI3-, 11 VC1, 12 VC2, 13 VC3, 14 VC4, 15 G+, 16 G-, 17 Y+, 18 Y-, 19, 20

## HT188_0
designator U?
pins: 1 VCC, 2 SEL, 3 D_P, 4 D_N, 5 GND, 6 HSD0_N, 7 HSD0_P, 8 HSD1_N, 9 HSD1_P, 10 nOE

## INDUCTOR COM
designator L?
footprint L0402D
pins: 1, 2, 3, 4

## INDUCTORS OF FERRITE
designator L?
pins: 1, 2

## INDUCTORS OF FERRITE_Dup1
designator L?
pins: 1, 2

## KEY_0
designator SW?
pins: 1, 2, 3, 4

## LCD39P_03
designator U?
pins: 1 VDD3V3, 2 IOVCC1V8-3V3, 3 4, 4 RESET, 5 6, 6 GND1, 7 MIPI-0N, 8 MIPI-0P, 9 GND2, 10 MIPI-1N, 11 MIPI-1P, 12 GND3, 13 MIPI-CKN, 14 MIPI-CKP, 15 GND4, 16 MIPI-2N, 17 MIPI-2P, 18 GND5, 19 MIPI-3N, 20 MIPI-3P, 21 GND6, 22 GND7, 23 TP-RESET, 24 TP-VCC, 25 TP-INT, 26 TP-SDA, 27 TP-SCL, 28 GND8, 29 GND9, 30 VCC3V31, 31 VCC3V32, 32 GND11, 33 GND12, 34 LED-1, 35 LED-, 36 37, 37 38, 38 LED+1, 39 LED+, 40 PAD2, 41 PAD1
text: connect to 40P 0.5

## LD089WU1_0
designator U?
pins: 1 VDD1, 2 VDD2, 3 VDD3, 4 NC1, 5 GND1, 6 BIST, 7 NC2, 8 NC3, 9 GND2, 10 NC4, 11 NC5, 12 GND3, 13 NC6, 14 NC7, 15 GND4, 16 NC8, 17 NC9, 18 GND5, 19 MIPI_2N, 20 MIPI_2P, 21 GND6, 22 MIPI_1N, 23 MIPI_1P, 24 GND7, 25 MIPI_CLKN, 26 MIPI_CLKP, 27 GND8, 28 MIPI_0N, 29 MIPI_0P, 30 GND9, 31 MIPI_3N, 32 MIPI_3P, 33 GND10, 34 FB1, 35 FB2, 36 FB3, 37 FB4, 38 FB5, 39 PWM_IN, 40 PWM_OUT, 41 CABC_EN, 42 NC10, 43 VLED1, 44 VLED2, 45 VLED3, 46 GND11, 47 GND12

## LDO_PT5108
designator U?
pins: 1 IN, 2 GND, 3 EN, 4 BP, 5 OUT

## LED
designator LED?
pins: 1 ANODE, 2 CATHODE

## LED_0
designator LED?
pins: 1 SW, 2 SW, 3 G, L1 LED-, L2 LED+

## M_5.2 NGFF EKEY SOCKET
designator U?
pins: 1 GND14, 2 3.3V1, 3 GND13, 4 3.3V2, 5 PERn3, 6 NC1, 7 PERp3, 8 NC2, 9 GND12, 10 DAS/DSS#, 11 PETn3, 12 3.3V3, 13 PETp3, 14 3.3V4, 15 GND11, 16 3.3V5, 17 PERn2, 18 3.3V6, 19 PERp2, 20 NC3, 21 GND10, 22 NC4, 23 PETn2, 24 NC5, 25 PETp2, 26 NC6, 27 GND9, 28 NC7, 29 PERn1, 30 NC8, 31 PERp1, 32 NC9, 33 GND8, 34 NC10, 35 PETn1, 36 NC11, 37 PETp1, 38 DEVSLP, 39 GND7, 40 NC12, 41 PERn0/SATA-B+, 42 NC13, 43 PERp0/SATA-B-, 44 NC14, 45 GND6, 46 NC15, 47 PETn0/SATA-A-, 48 NC16, 49 PETp0/SATA-A+, 50 PERST#, 51 GND5, 52 CLKREQ#, 53 REFCLKN, 54 PEWake#, 55 REFCLKP, 56 NC17, 57 GND4, 58 NC18, 67 NC19, 68 SUSCLK, 69 PEDET, 70 3.3V7, 71 GND3, 72 3.3V8, 73 GND2, 74 3.3V9, 75 GND1, 76 GND15, 77 GND16, 78
text: PCIE M.2 NGFF / M-KEY SOCKET

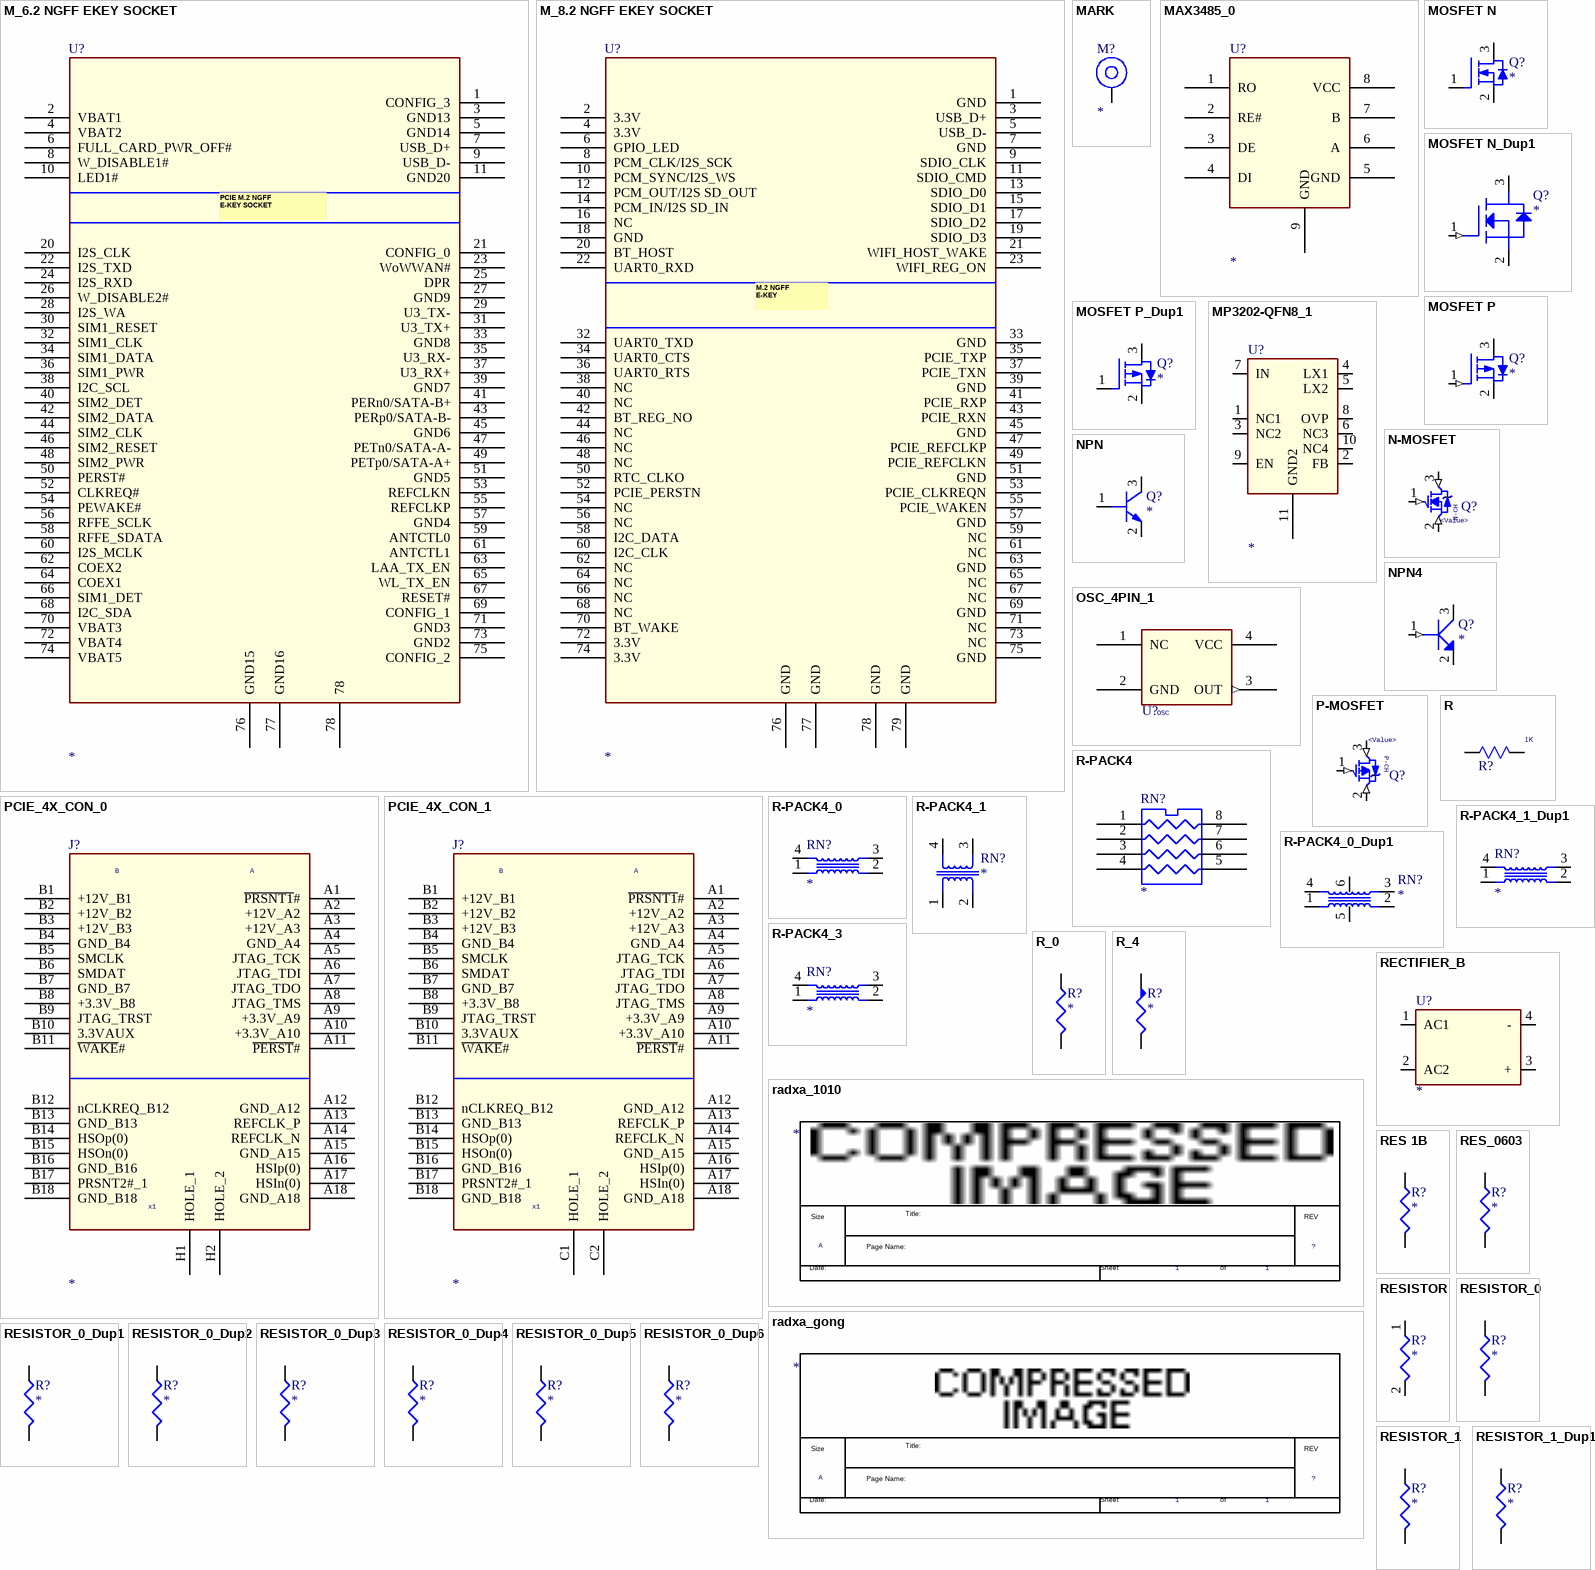
[diagram p16: symbols M_6.2 NGFF EKEY SOCKET to RESISTOR_1_Dup1]

## M_6.2 NGFF EKEY SOCKET
designator U?
pins: 1 CONFIG_3, 2 VBAT1, 3 GND13, 4 VBAT2, 5 GND14, 6 FULL_CARD_PWR_OFF#, 7 USB_D+, 8 W_DISABLE1#, 9 USB_D-, 10 LED1#, 11 GND20, 20 I2S_CLK, 21 CONFIG_0, 22 I2S_TXD, 23 WoWWAN#, 24 I2S_RXD, 25 DPR, 26 W_DISABLE2#, 27 GND9, 28 I2S_WA, 29 U3_TX-, 30 SIM1_RESET, 31 U3_TX+, 32 SIM1_CLK, 33 GND8, 34 SIM1_DATA, 35 U3_RX-, 36 SIM1_PWR, 37 U3_RX+, 38 I2C_SCL, 39 GND7, 40 SIM2_DET, 41 PERn0/SATA-B+, 42 SIM2_DATA, 43 PERp0/SATA-B-, 44 SIM2_CLK, 45 GND6, 46 SIM2_RESET, 47 PETn0/SATA-A-, 48 SIM2_PWR, 49 PETp0/SATA-A+, 50 PERST#, 51 GND5, 52 CLKREQ#, 53 REFCLKN, 54 PEWAKE#, 55 REFCLKP, 56 RFFE_SCLK, 57 GND4, 58 RFFE_SDATA, 59 ANTCTL0, 60 I2S_MCLK, 61 ANTCTL1, 62 COEX2, 63 LAA_TX_EN, 64 COEX1, 65 WL_TX_EN, 66 SIM1_DET, 67 RESET#, 68 I2C_SDA, 69 CONFIG_1, 70 VBAT3, 71 GND3, 72 VBAT4, 73 GND2, 74 VBAT5, 75 CONFIG_2, 76 GND15, 77 GND16, 78
text: PCIE M.2 NGFF / E-KEY SOCKET

## M_8.2 NGFF EKEY SOCKET
designator U?
pins: 1 GND, 2 3.3V, 3 USB_D+, 4 3.3V, 5 USB_D-, 6 GPIO_LED, 7 GND, 8 PCM_CLK/I2S_SCK, 9 SDIO_CLK, 10 PCM_SYNC/I2S_WS, 11 SDIO_CMD, 12 PCM_OUT/I2S SD_OUT, 13 SDIO_D0, 14 PCM_IN/I2S SD_IN, 15 SDIO_D1, 16 NC, 17 SDIO_D2, 18 GND, 19 SDIO_D3, 20 BT_HOST, 21 WIFI_HOST_WAKE, 22 UART0_RXD, 23 WIFI_REG_ON, 32 UART0_TXD, 33 GND, 34 UART0_CTS, 35 PCIE_TXP, 36 UART0_RTS, 37 PCIE_TXN, 38 NC, 39 GND, 40 NC, 41 PCIE_RXP, 42 BT_REG_NO, 43 PCIE_RXN, 44 NC, 45 GND, 46 NC, 47 PCIE_REFCLKP, 48 NC, 49 PCIE_REFCLKN, 50 RTC_CLKO, 51 GND, 52 PCIE_PERSTN, 53 PCIE_CLKREQN, 54 NC, 55 PCIE_WAKEN, 56 NC, 57 GND, 58 I2C_DATA, 59 NC, 60 I2C_CLK, 61 NC, 62 NC, 63 GND, 64 NC, 65 NC, 66 NC, 67 NC, 68 NC, 69 GND, 70 BT_WAKE, 71 NC, 72 3.3V, 73 NC, 74 3.3V, 75 GND, 76 GND, 77 GND, 78 GND, 79 GND
text: M.2 NGFF / E-KEY

## MARK
designator M?
pins: 1

## MAX3485_0
designator U?
pins: 1 RO, 2 RE#, 3 DE, 4 DI, 5 GND, 6 A, 7 B, 8 VCC, 9 GND

## MOSFET N
designator Q?
footprint SOT23
pins: 1 GATE, 2 SOURCE, 3 DRAIN

## MOSFET N_Dup1
designator Q?
footprint SOT23
pins: 1 GATE (in), 2 SOURCE, 3 DRAIN

## MOSFET P
designator Q?
footprint SOT23
pins: 1 GATE (in), 2 SOURCE, 3 DRAIN

## MOSFET P_Dup1
designator Q?
footprint SOT23
pins: 1 GATE, 2 SOURCE, 3 DRAIN

## MP3202-QFN8_1
designator U?
footprint QFN8-2X2
pins: 1 NC1, 2 FB, 3 NC2, 4 LX1, 5 LX2, 6 NC3, 7 IN, 8 OVP, 9 EN, 10 NC4, 11 GND2

## N-MOSFET
designator Q?, comment <Value>
footprint S0T-23
pins: 1 G (in), 2 S (in), 3 D (in)
text: N-CH

## NPN
designator Q?
pins: 1 BASE, 2 EMITTER, 3 COLLECTOR

## NPN4
designator Q?
footprint SOT23
pins: 1 B (in), 2 E, 3 C

## OSC_4PIN_1
designator U?, comment OSC
pins: 1 NC, 2 GND (power), 3 OUT (out), 4 VCC (power)

## P-MOSFET
designator Q?, comment <Value>
footprint S0T-23
pins: 1 G (in), 2 S (in), 3 D (in)
text: P-CH

## PCIE_4X_CON_0
designator J?
pins: A1 ~{PRSNT1}#, A2 +12V_A2, A3 +12V_A3, A4 GND_A4, A5 JTAG_TCK, A6 JTAG_TDI, A7 JTAG_TDO, A8 JTAG_TMS, A9 +3.3V_A9, A10 +3.3V_A10, A11 ~{PERST}#, A12 GND_A12, A13 REFCLK_P, A14 REFCLK_N, A15 GND_A15, A16 HSIp(0), A17 HSIn(0), A18 GND_A18, B1 +12V_B1, B2 +12V_B2, B3 +12V_B3, B4 GND_B4, B5 SMCLK, B6 SMDAT, B7 GND_B7, B8 +3.3V_B8, B9 JTAG_TRST, B10 3.3VAUX, B11 ~{WAKE}#, B12 nCLKREQ_B12, B13 GND_B13, B14 HSOp(0), B15 HSOn(0), B16 GND_B16, B17 PRSNT2#_1, B18 GND_B18, H1 HOLE_1, H2 HOLE_2
text: B; A; x1